# Altium schematic symbol library Custom_Library.SCHLIB: 167 symbols (part 1 of 2)
Pins are listed as number, name and electrical type; pins without a type are passive.

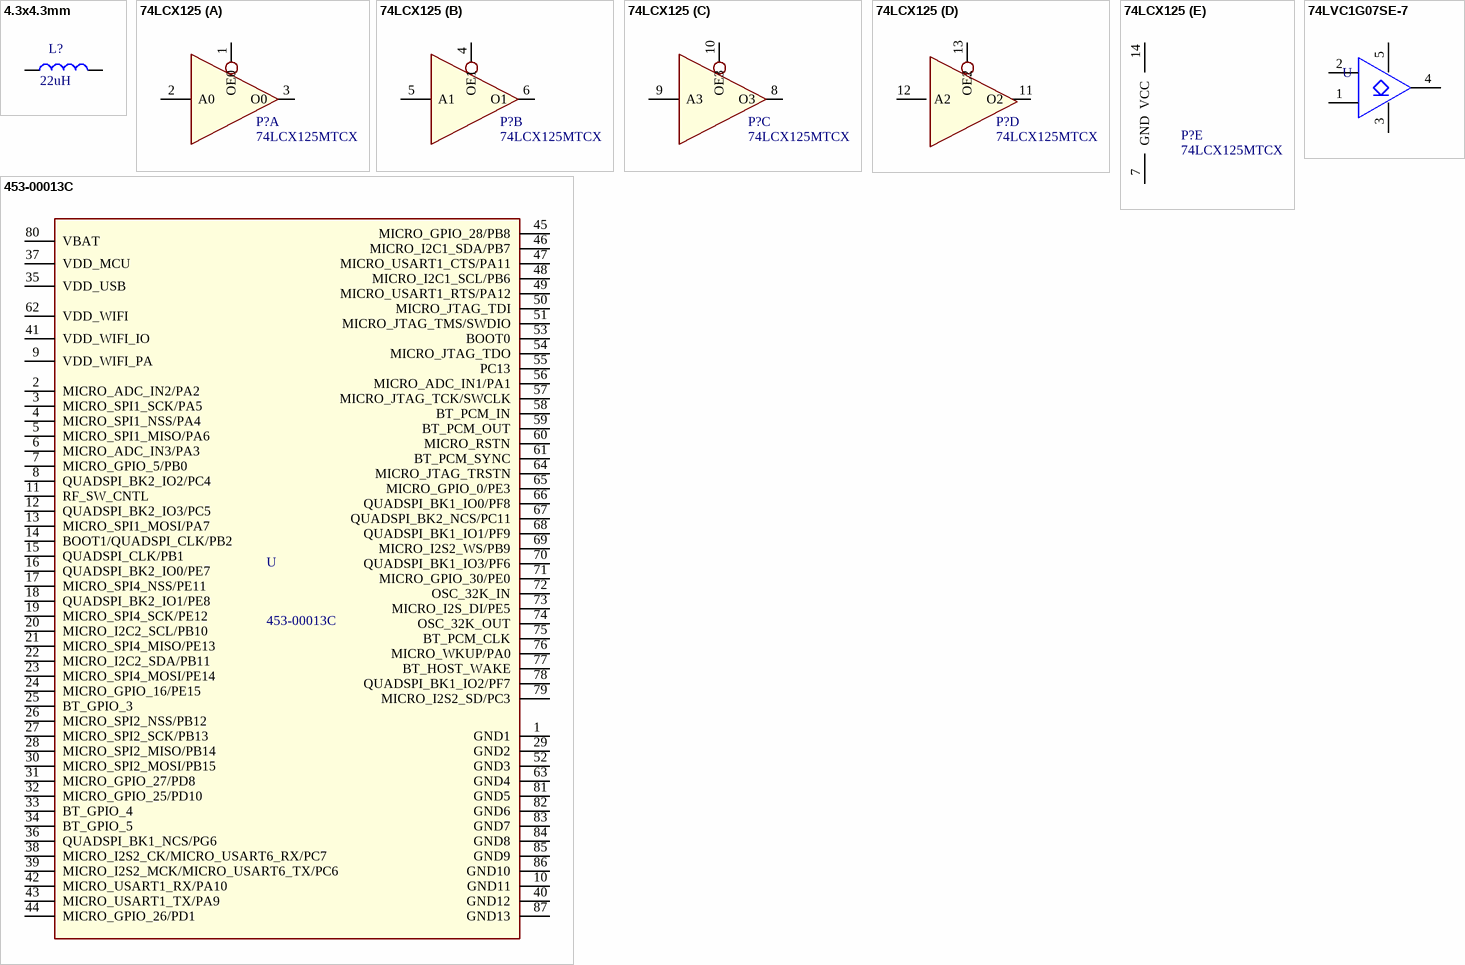
[diagram p0: symbols 4.3x4.3mm to 453-00013C]

## 4.3x4.3mm
designator L?, comment 22uH
FIXED IND 22UH 620MA 350 MOHM; Mfr. Part No.: ASPI-4020S-220M-T; Unit Price (USD): 0.48; Supplier Part No.: 535-12307-1-ND; Value: 22uH; Supplier: Digikey Electronics
footprint 4.3x4.3mm
pins: 1, 2

## 74LCX125
designator P?, comment 74LCX125MTCX
IC BUF NON-INVERT 3.6V 14TSSOP; Unit Price (USD): 0.74; Mfr. Part No.: 74LCX125MTCX; Supplier Part No.: 74LCX125MTCXCT-ND; Supplier: Digikey Electronics
footprint TSSOP-14 (W4.40mm) A
part A pins: 1 OE0, 2 A0, 3 O0
part B pins: 4 OE1, 5 A1, 6 O1
part C pins: 8 O3, 9 A3, 10 OE3
part D pins: 11 O2, 12 A2, 13 OE2
part E pins: 7 GND (power), 14 VCC (power)

## 74LVC1G07SE-7
designator U
IC BUF NON-INVERT 5.5V SOT353; Mfr. Part No.: 74LVC1G07SE-7; Unit Price (USD): 0.26; Supplier Part No.: 74LVC1G07SE-7DICT-ND74LVC1G07SE-7DICT-ND; Supplier: Digikey Electronics
pins: 1, 2, 3, 4, 5

## 453-00013C
designator U
RX TXRX MOD WIFI CHIP + U.FL SMD; Unit Price (USD): 25.23; Mfr. Part No.: 453-00013C; Supplier Part No.: 453-00013C-ND; Supplier: Digikey Electronics
pins: 1 GND1, 2 MICRO_ADC_IN2/PA2, 3 MICRO_SPI1_SCK/PA5, 4 MICRO_SPI1_NSS/PA4, 5 MICRO_SPI1_MISO/PA6, 6 MICRO_ADC_IN3/PA3, 7 MICRO_GPIO_5/PB0, 8 QUADSPI_BK2_IO2/PC4, 9 VDD_WIFI_PA, 10 GND11, 11 RF_SW_CNTL, 12 QUADSPI_BK2_IO3/PC5, 13 MICRO_SPI1_MOSI/PA7, 14 BOOT1/QUADSPI_CLK/PB2, 15 QUADSPI_CLK/PB1, 16 QUADSPI_BK2_IO0/PE7, 17 MICRO_SPI4_NSS/PE11, 18 QUADSPI_BK2_IO1/PE8, 19 MICRO_SPI4_SCK/PE12, 20 MICRO_I2C2_SCL/PB10, 21 MICRO_SPI4_MISO/PE13, 22 MICRO_I2C2_SDA/PB11, 23 MICRO_SPI4_MOSI/PE14, 24 MICRO_GPIO_16/PE15, 25 BT_GPIO_3, 26 MICRO_SPI2_NSS/PB12, 27 MICRO_SPI2_SCK/PB13, 28 MICRO_SPI2_MISO/PB14, 29 GND2, 30 MICRO_SPI2_MOSI/PB15, 31 MICRO_GPIO_27/PD8, 32 MICRO_GPIO_25/PD10, 33 BT_GPIO_4, 34 BT_GPIO_5, 35 VDD_USB, 36 QUADSPI_BK1_NCS/PG6, 37 VDD_MCU, 38 MICRO_I2S2_CK/MICRO_USART6_RX/PC7, 39 MICRO_I2S2_MCK/MICRO_USART6_TX/PC6, 40 GND12, 41 VDD_WIFI_IO, 42 MICRO_USART1_RX/PA10, 43 MICRO_USART1_TX/PA9, 44 MICRO_GPIO_26/PD1, 45 MICRO_GPIO_28/PB8, 46 MICRO_I2C1_SDA/PB7, 47 MICRO_USART1_CTS/PA11, 48 MICRO_I2C1_SCL/PB6, 49 MICRO_USART1_RTS/PA12, 50 MICRO_JTAG_TDI, 51 MICRO_JTAG_TMS/SWDIO, 52 GND3, 53 BOOT0, 54 MICRO_JTAG_TDO, 55 PC13, 56 MICRO_ADC_IN1/PA1, 57 MICRO_JTAG_TCK/SWCLK, 58 BT_PCM_IN, 59 BT_PCM_OUT, 60 MICRO_RSTN, 61 BT_PCM_SYNC, 62 VDD_WIFI, 63 GND4, 64 MICRO_JTAG_TRSTN, 65 MICRO_GPIO_0/PE3, 66 QUADSPI_BK1_IO0/PF8, 67 QUADSPI_BK2_NCS/PC11, 68 QUADSPI_BK1_IO1/PF9, 69 MICRO_I2S2_WS/PB9, 70 QUADSPI_BK1_IO3/PF6, 71 MICRO_GPIO_30/PE0, 72 OSC_32K_IN, 73 MICRO_I2S_DI/PE5, 74 OSC_32K_OUT, 75 BT_PCM_CLK, 76 MICRO_WKUP/PA0, 77 BT_HOST_WAKE, 78 QUADSPI_BK1_IO2/PF7, 79 MICRO_I2S2_SD/PC3, 80 VBAT, 81 GND5, 82 GND6, 83 GND7, 84 GND8, 85 GND9, 86 GND10, 87 GND13

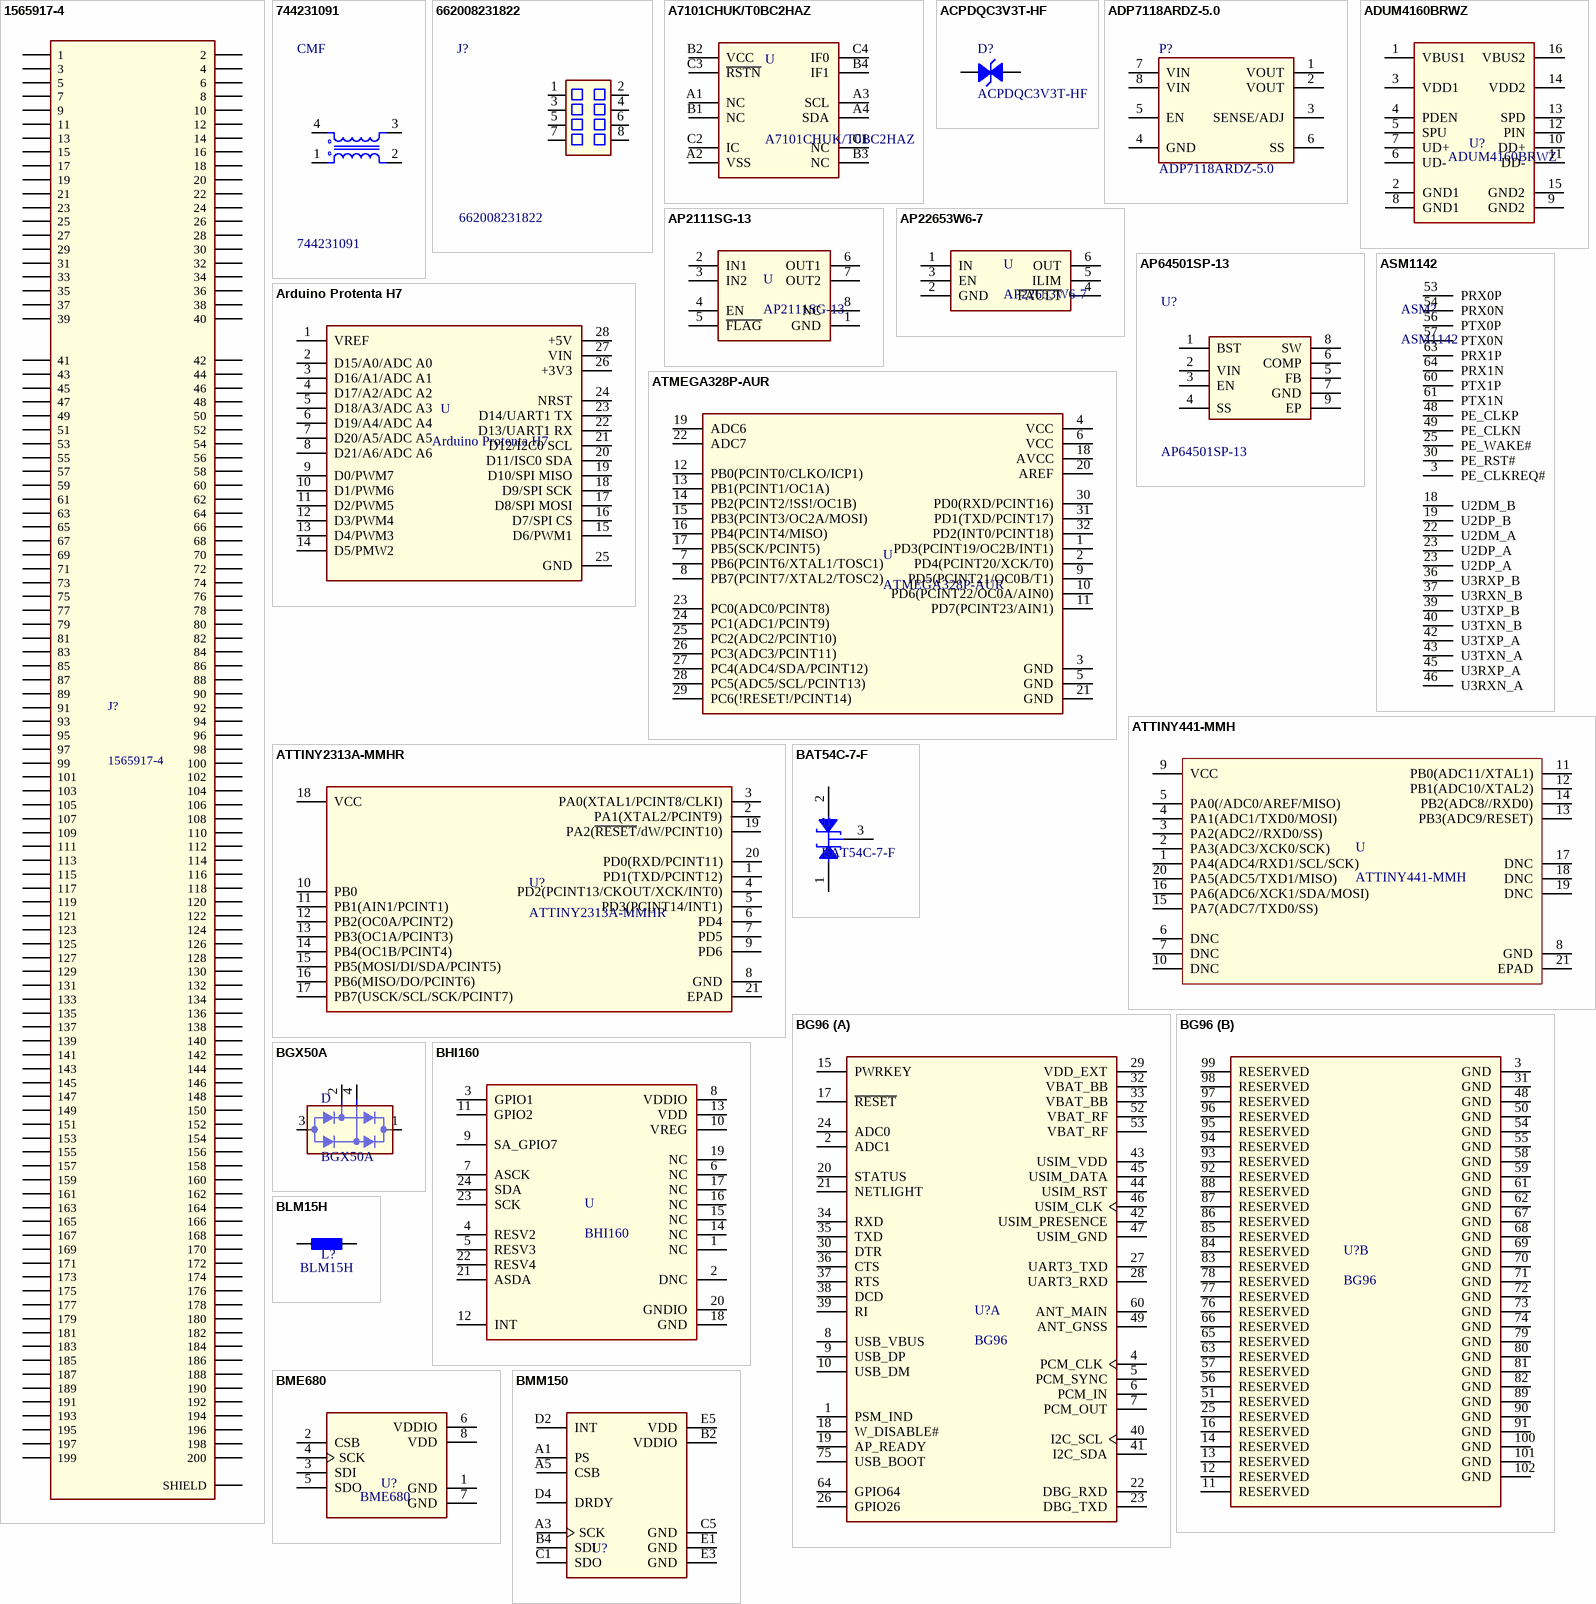
[diagram p1: symbols 1565917-4 to BMM150]

## 1565917-4
designator J?
CONN SKT SODIMM 200POS R/A SMD; Unit Price (USD): 5; Mfr. Part No.: 1565917-4; Supplier Part No.: A97498CT-ND; Supplier: Digikey Electronics
footprint TE_1565917-4
pins: 1, 2, 3, 4, 5, 6, 7, 8, 9, 10, 11, 12, 13, 14, 15, 16, 17, 18, 19, 20, 21, 22, 23, 24, 25, 26, 27, 28, 29, 30, 31, 32, 33, 34, 35, 36, 37, 38, 39, 40, 41, 42, 43, 44, 45, 46, 47, 48, 49, 50, 51, 52, 53, 54, 55, 56, 57, 58, 59, 60, 61, 62, 63, 64, 65, 66, 67, 68, 69, 70, 71, 72, 73, 74, 75, 76, 77, 78, 79, 80, 81, 82, 83, 84, 85, 86, 87, 88, 89, 90, 91, 92, 93, 94, 95, 96, 97, 98, 99, 100, 101, 102, 103, 104, 105, 106, 107, 108, 109, 110, 111, 112, 113, 114, 115, 116, 117, 118, 119, 120, 121, 122, 123, 124, 125, 126, 127, 128, 129, 130, 131, 132, 133, 134, 135, 136, 137, 138, 139, 140, 141, 142, 143, 144, 145, 146, 147, 148, 149, 150, 151, 152, 153, 154, 155, 156, 157, 158, 159, 160, 161, 162, 163, 164, 165, 166, 167, 168, 169, 170, 171, 172, 173, 174, 175, 176, 177, 178, 179, 180, 181, 182, 183, 184, 185, 186, 187, 188, 189, 190, 191, 192, 193, 194, 195, 196, 197, 198, 199, 200, SH SHIELD

## 744231091
designator CMF
CMC 370MA 2LN 90 OHM SMD; Unit Price (USD): 1.06; Mfr. Part No.: 744231091; Supplier: Digikey Electronics; Supplier Part No.: 732-3198-2-ND
pins: 1, 2, 3, 4

## 662008231822
designator J?
CONN HEADER SMD 8POS 3MM; Unit Price (USD): 1.42; Mfr. Part No.: 662008231822; Supplier Part No.: 732-4916-ND; Supplier: Digikey Electronics
pins: 1, 2, 3, 4, 5, 6, 7, 8

## A7101CHUK/T0BC2HAZ
designator U
SECURITY IC STD TEMP WLCSP; Unit Price (USD): 2.83; Mfr. Part No.: A7101CHUK/T0BC2HAZ; Supplier Part No.: 568-14698-2-ND; Supplier: Digikey Electronics
footprint 12-UFBGA/WLCSP (2.06x2.02mm)
pins: A1 NC, A2 VSS, A3 SCL, A4 SDA, B1 NC, B2 VCC, B3 NC, B4 IF1, C1 NC, C2 IC, C3 ~{RSTN}, C4 IF0

## ACPDQC3V3T-HF
designator D?
TVS DIODE 3.3V 9.8V 0402C; Unit Price (USD): 0.41; Mfr. Part No.: ACPDQC3V3T-HF; Supplier Part No.: 641-1635-1-ND; Supplier: Digikey Electronics
footprint 0402C/SOD-923F
pins: 1, 2

## ADP7118ARDZ-5.0
designator P?
IC REG LINEAR 5V 200MA 8SOIC; Unit Price (USD): 2.3; Mfr. Part No.: ADP7118ARDZ-5.0; Supplier Part No.: ADP7118ARDZ-5.0-ND; Supplier: Digikey Electronics
footprint SOIC-8 (W3.9mm) C
pins: 1 VOUT, 2 VOUT, 3 SENSE/ADJ, 4 GND, 5 EN, 6 SS, 7 VIN, 8 VIN

## ADUM4160BRWZ
designator U?
DGT ISOL 5000VRMS 2CH USB 16SOIC; Unit Price (USD): 10.5; Mfr. Part No.: ADUM4160BRWZ; Supplier Part No.: ADUM4160BRWZ-ND; Supplier: Digikey Electronics
footprint SOIC-16-W7.5mm
pins: 1 VBUS1, 2 GND1, 3 VDD1, 4 PDEN, 5 SPU, 6 UD-, 7 UD+, 8 GND1, 9 GND2, 10 DD+, 11 DD-, 12 PIN, 13 SPD, 14 VDD2, 15 GND2, 16 VBUS2

## AP2111SG-13
designator U
IC PWR SWITCH P-CHANNEL 1:1 8SOP; Unit Price (USD): 0.68; Supplier Part No.: AP2111SG-13DITR-ND; Mfr. Part No.: AP2111SG-13; Supplier: Digikey Electronics
footprint SOIC-8 (W3.9mm)
pins: 1 GND, 2 IN1, 3 IN2, 4 EN, 5 ~{FLAG}, 6 OUT1, 7 OUT2, 8 NC

## AP22653W6-7
designator U
LOAD SWITCH,SOT26,T&R,3K; Unit Price (USD): 0.42; Supplier Part No.: 31-AP22653W6-7CT-ND; Mfr. Part No.: AP22653W6-7; Supplier: Digikey Electronics
pins: 1 IN, 2 GND, 3 EN, 4 ~{FAULT}, 5 ILIM, 6 OUT

## AP64501SP-13
designator U?
DCDC CONV HV BUCK SO-8EP; Unit Price (USD): 2.3; Mfr. Part No.: AP64501SP-13; Supplier Part No.: 31-AP64501SP-13CT-ND; Supplier: Digikey Electronics
pins: 1 BST, 2 VIN, 3 EN, 4 SS, 5 FB, 6 COMP, 7 GND, 8 SW, 9 EP

## Arduino Protenta H7
designator U
STM32H747 Portenta H7 STM32H7 ARM® Cortex®-M4, Cortex®-M7 MCU 32-Bit Embedded Evaluation Board; Mfr. Part No.: ABX00042; Unit Price (USD): 99.99; Supplier Part No.: 1050-ABX00042-ND; Supplier: Digikey Electronics
footprint Protenta H7
pins: 1 VREF, 2 D15/A0/ADC A0, 3 D16/A1/ADC A1, 4 D17/A2/ADC A2, 5 D18/A3/ADC A3, 6 D19/A4/ADC A4, 7 D20/A5/ADC A5, 8 D21/A6/ADC A6, 9 D0/PWM7, 10 D1/PWM6, 11 D2/PWM5, 12 D3/PWM4, 13 D4/PWM3, 14 D5/PMW2, 15 D6/PWM1, 16 D7/SPI CS, 17 D8/SPI MOSI, 18 D9/SPI SCK, 19 D10/SPI MISO, 20 D11/ISC0 SDA, 21 D12/I2C0 SCL, 22 D13/UART1 RX, 23 D14/UART1 TX, 24 NRST, 25 GND, 26 +3V3, 27 VIN, 28 +5V

## ASM1142
designator ASM?
PCI Express to 2 ports USB3.1 x HCI Host Controller
pins: 3 PE_CLKREQ#, 18 U2DM_B, 19 U2DP_B, 22 U2DM_A, 23 U2DP_A, 23 U2DP_A, 25 PE_WAKE#, 30 PE_RST#, 36 U3RXP_B, 37 U3RXN_B, 39 U3TXP_B, 40 U3TXN_B, 42 U3TXP_A, 43 U3TXN_A, 45 U3RXP_A, 46 U3RXN_A, 48 PE_CLKP, 49 PE_CLKN, 53 PRX0P, 54 PRX0N, 56 PTX0P, 57 PTX0N, 60 PTX1P, 61 PTX1N, 63 PRX1P, 64 PRX1N

## ATMEGA328P-AUR
designator U
IC MCU 8BIT 32KB FLASH 32TQFP; Unit Price (USD): 2.08; Supplier Part No.: ATMEGA328P-AURCT-ND; Mfr. Part No.: ATMEGA328P-AUR; Supplier: Digikey Electronics
pins: 1 PD3(PCINT19/OC2B/INT1), 2 PD4(PCINT20/XCK/T0), 3 GND, 4 VCC, 5 GND, 6 VCC, 7 PB6(PCINT6/XTAL1/TOSC1), 8 PB7(PCINT7/XTAL2/TOSC2), 9 PD5(PCINT21/OC0B/T1), 10 PD6(PCINT22/OC0A/AIN0), 11 PD7(PCINT23/AIN1), 12 PB0(PCINT0/CLKO/ICP1), 13 PB1(PCINT1/OC1A), 14 PB2(PCINT2/!SS!/OC1B), 15 PB3(PCINT3/OC2A/MOSI), 16 PB4(PCINT4/MISO), 17 PB5(SCK/PCINT5), 18 AVCC, 19 ADC6, 20 AREF, 21 GND, 22 ADC7, 23 PC0(ADC0/PCINT8), 24 PC1(ADC1/PCINT9), 25 PC2(ADC2/PCINT10), 26 PC3(ADC3/PCINT11), 27 PC4(ADC4/SDA/PCINT12), 28 PC5(ADC5/SCL/PCINT13), 29 PC6(!RESET!/PCINT14), 30 PD0(RXD/PCINT16), 31 PD1(TXD/PCINT17), 32 PD2(INT0/PCINT18)

## ATTINY441-MMH
designator U
IC MCU 8BIT 4KB FLASH
pins: 1 PA4(ADC4/RXD1/SCL/SCK) , 2 PA3(ADC3/XCK0/SCK) , 3 PA2(ADC2//RXD0/SS), 4 PA1(ADC1/TXD0/MOSI) , 5 PA0(/ADC0/AREF/MISO), 6 DNC, 7 DNC, 8 GND, 9 VCC, 10 DNC, 11 PB0(ADC11/XTAL1), 12 PB1(ADC10/XTAL2), 13 PB3(ADC9/RESET), 14 PB2(ADC8//RXD0), 15 PA7(ADC7/TXD0/SS), 16 PA6(ADC6/XCK1/SDA/MOSI), 17 DNC, 18 DNC, 19 DNC, 20 PA5(ADC5/TXD1/MISO), 21 EPAD

## ATTINY2313A-MMHR
designator U?
IC MCU 8BIT 2KB FLASH 20VQFN; Unit Price (USD): 0.95; Supplier Part No.: ATTINY2313A-MMHRCT-ND; Mfr. Part No.: ATTINY2313A-MMHR; Supplier: Digikey Electronics
footprint VQFN-20-3X3-EP
pins: 1 PD1(TXD/PCINT12), 2 PA1(XTAL2/PCINT9), 3 PA0(XTAL1/PCINT8/CLKI), 4 PD2(PCINT13/CKOUT/XCK/INT0), 5 PD3(PCINT14/INT1), 6 PD4, 7 PD5, 8 GND, 9 PD6, 10 PB0, 11 PB1(AIN1/PCINT1), 12 PB2(OC0A/PCINT2), 13 PB3(OC1A/PCINT3), 14 PB4(OC1B/PCINT4), 15 PB5(MOSI/DI/SDA/PCINT5), 16 PB6(MISO/DO/PCINT6), 17 PB7(USCK/SCL/SCK/PCINT7), 18 VCC, 19 PA2(~{RESET}/dW/PCINT10), 20 PD0(RXD/PCINT11), 21 EPAD

## BAT54C-7-F
designator U
DIODE ARRAY SCHOTTKY 30V SOT23-3; Unit Price (USD): 0.18; Supplier Part No.: BAT54C-FDICT-ND; Mfr. Part No.: BAT54C-7-F; Supplier: Digikey Electronics
pins: 1, 2, 3

## BG96
designator U?
BG96 is a series of LTE Cat M1/Cat NB1/EGPRS/LPWA module offering maximum data rates of 375Kbps downlink and 375Kbps uplink; Supplier Part No.: *; Supplier: *; Mfr. Part No.: *; Unit Price (USD): *
part A pins: 1 PSM_IND, 2 ADC1, 4 PCM_CLK, 5 PCM_SYNC, 6 PCM_IN, 7 PCM_OUT, 8 USB_VBUS, 9 USB_DP, 10 USB_DM, 15 PWRKEY, 17 ~{RESET}, 18 W_DISABLE#, 19 AP_READY, 20 STATUS, 21 NETLIGHT, 22 DBG_RXD, 23 DBG_TXD, 24 ADC0, 26 GPIO26, 27 UART3_TXD, 28 UART3_RXD, 29 VDD_EXT, 30 DTR, 32 VBAT_BB, 33 VBAT_BB, 34 RXD, 35 TXD, 36 CTS, 37 RTS, 38 DCD, 39 RI, 40 I2C_SCL, 41 I2C_SDA, 42 USIM_PRESENCE, 43 USIM_VDD, 44 USIM_RST, 45 USIM_DATA, 46 USIM_CLK, 47 USIM_GND, 49 ANT_GNSS, 52 VBAT_RF, 53 VBAT_RF, 60 ANT_MAIN, 64 GPIO64, 75 USB_BOOT
part B pins: 3 GND, 11 RESERVED, 12 RESERVED, 13 RESERVED, 14 RESERVED, 16 RESERVED, 25 RESERVED, 31 GND, 48 GND, 50 GND, 51 RESERVED, 54 GND, 55 GND, 56 RESERVED, 57 RESERVED, 58 GND, 59 GND, 61 GND, 62 GND, 63 RESERVED, 65 RESERVED, 66 RESERVED, 67 GND, 68 GND, 69 GND, 70 GND, 71 GND, 72 GND, 73 GND, 74 GND, 76 RESERVED, 77 RESERVED, 78 RESERVED, 79 GND, 80 GND, 81 GND, 82 GND, 83 RESERVED, 84 RESERVED, 85 RESERVED, 86 RESERVED, 87 RESERVED, 88 RESERVED, 89 GND, 90 GND, 91 GND, 92 RESERVED, 93 RESERVED, 94 RESERVED, 95 RESERVED, 96 RESERVED, 97 RESERVED, 98 RESERVED, 99 RESERVED, 100 GND, 101 GND, 102 GND

## BGX50A
designator D
Diode, Bridge, Switching, 50V, 140mA,KCAC,  SOT-143; Unit Price (USD): 0.2; Mfr. Part No.: BGX50A; Supplier Part No.: BGX50AINCT-ND; Supplier: Digikey Electronics
footprint 2-SMD (L3.20 x W1.50mm)
pins: 1, 2, 3, 4

## BHI160
designator U
IMU ACCEL/GYRO 3-AXIS I2C 24LGA; Unit Price (USD): 9.54; Supplier Part No.: 828-1067-2-ND; Mfr. Part No.: BHI160; Supplier: Digikey Electronics
footprint 24-LGA (3x3)
pins: 1 NC, 2 DNC, 3 GPIO1, 4 RESV2, 5 RESV3, 6 NC, 7 ASCK, 8 VDDIO, 9 SA_GPIO7, 10 VREG, 11 GPIO2, 12 INT, 13 VDD, 14 NC, 15 NC, 16 NC, 17 NC, 18 GND, 19 NC, 20 GNDIO, 21 ASDA, 22 RESV4, 23 SCK, 24 SDA

## BLM15H
designator L?
FERRITE BEAD 120 OHM 0402 1LN; Mfr. Part No.: BLM15HB121SN1D; Unit Price (USD): 0.19; Supplier Part No.: 490-4000-1-ND; Supplier: Digikey Electronics
footprint L-0402 (Chip Capacitor, Body 1.0x0.5mm, IPC High Density)
pins: 1, 2

## BME680
designator U?
FERRITE BEAD 120 OHM 0402 1LN; Unit Price (USD): 1; Mfr. Part No.: BME680; Supplier Part No.: 828-1077-2-ND; Supplier: Digikey Electronics
footprint BME680
pins: 1 GND, 2 CSB, 3 SDI, 4 SCK, 5 SDO, 6 VDDIO, 7 GND, 8 VDD

## BMM150
designator U?  (value not drawn)
SENSOR FLIPCORE/HALL SPI 12WLCSP; Unit Price (USD): 1; Mfr. Part No.: BMM150; Supplier Part No.: 828-1044-2-ND; Supplier: Digikey Electronics
footprint BMM150
pins: A1 PS, A3 SCK, A5 CSB, B2 VDDIO, B4 SDI, C1 SDO, C5 GND, D2 INT, D4 DRDY, E1 GND, E3 GND, E5 VDD

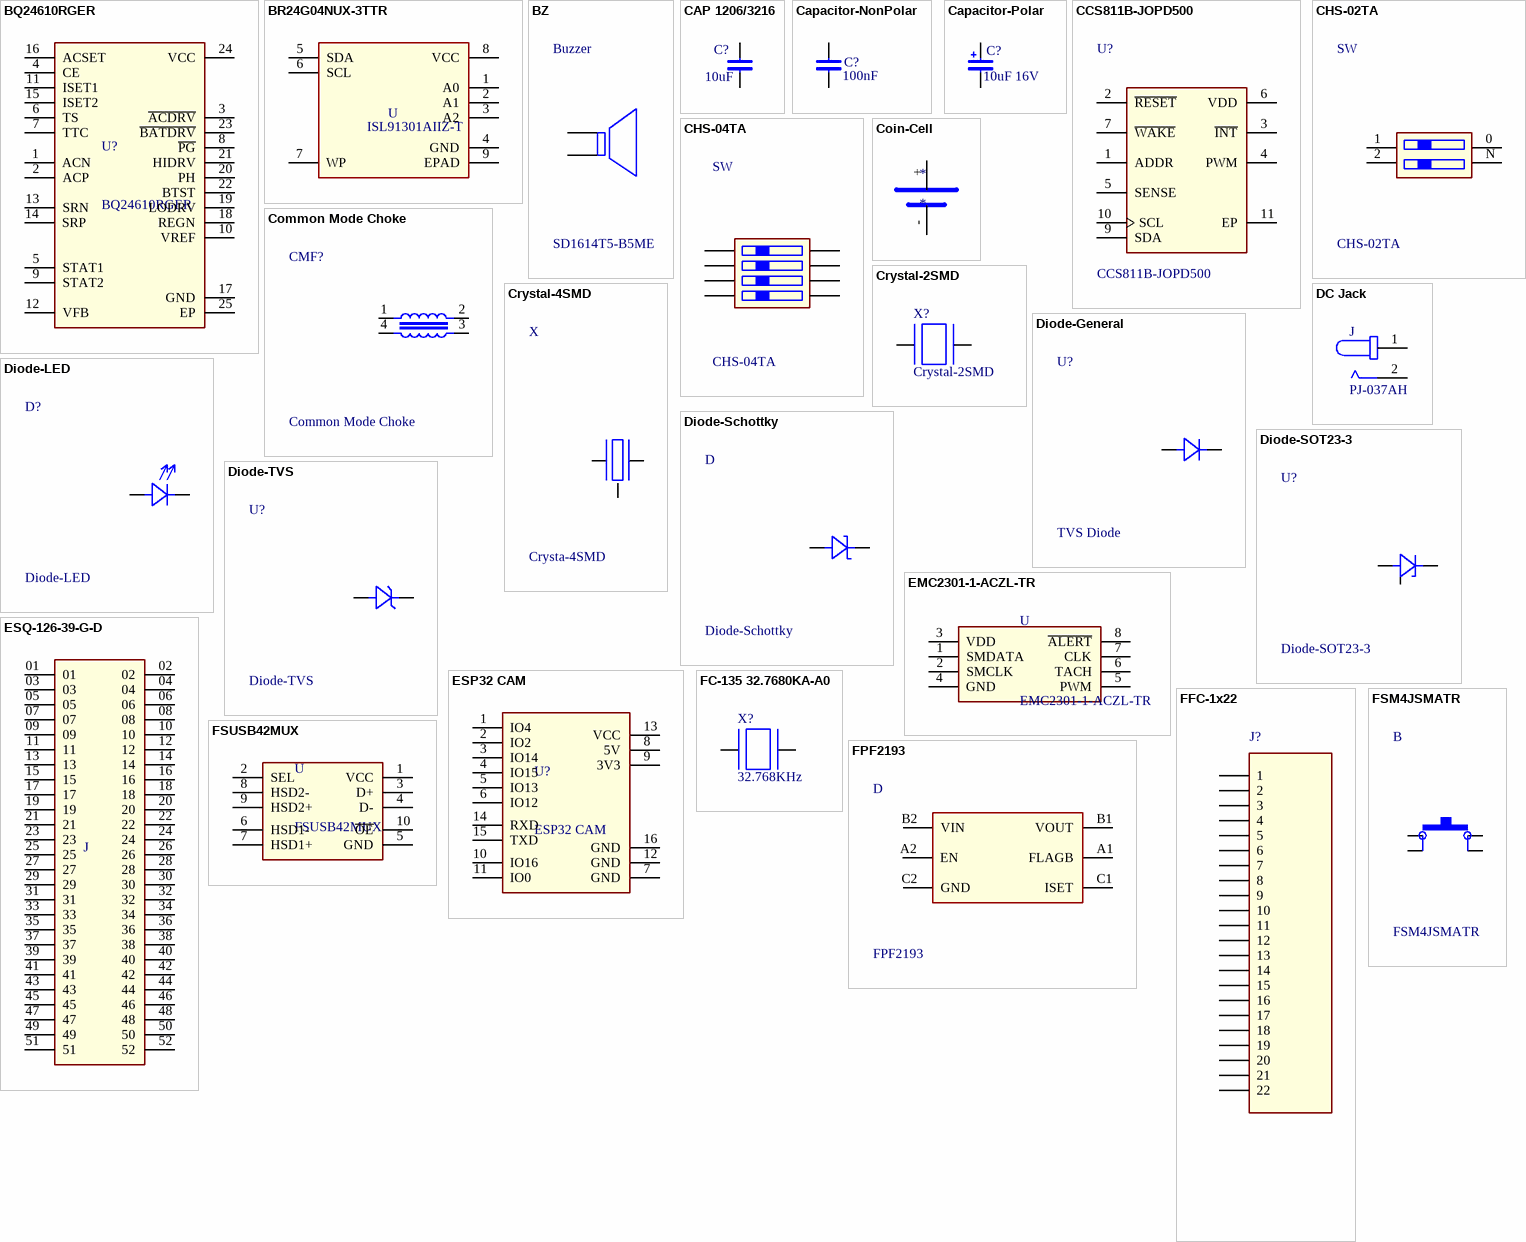
[diagram p2: symbols BQ24610RGER to FSUSB42MUX]

## BQ24610RGER
designator U?
IC BATT CHG LI-ION 1-6CEL 24VQFN; Unit Price (USD): 4.77; Mfr. Part No.: BQ24610RGER; Supplier Part No.: 296-29437-2-ND; Supplier: Digikey Electronics
footprint VQFN-24-(4x4) EP
pins: 1 ACN, 2 ACP, 3 ~{ACDRV}, 4 CE, 5 STAT1, 6 TS, 7 TTC, 8 ~{PG}, 9 STAT2, 10 VREF, 11 ISET1, 12 VFB, 13 SRN, 14 SRP, 15 ISET2, 16 ACSET, 17 GND, 18 REGN, 19 LODRV, 20 PH, 21 HIDRV, 22 BTST, 23 ~{BATDRV}, 24 VCC, 25 EP

## BR24G04NUX-3TTR
designator U, comment ISL91301AIIZ-T
IC EEPROM 4KBIT I2C VSON008X2030; Mfr. Part No.: BR24G04NUX-3TTR; Unit Price (USD): 0.27; Supplier Part No.: BR24G04NUX-3TTR-ND; Supplier: Digikey Electronics
footprint L-0402 (Chip Capacitor, Body 1.0x0.5mm, IPC High Density)
pins: 1 A0, 2 A1, 3 A2, 4 GND, 5 SDA, 6 SCL, 7 WP, 8 VCC, 9 EPAD

## BZ
designator Buzzer, comment SD1614T5-B5ME
BUZZER MAGNETIC 5V 80DB 2048HZ 1; Unit Price (USD): 1.25; Mfr. Part No.: SD1614T5-B5ME; Supplier: Digikey Electronics; Supplier Part No.: 445-175287-ND
footprint Buzzer 5mm
pins: 1 A, 2 B

## CAP 1206/3216
designator C?, comment 10uF
CAP CER 10UF 25V X5R 1206; Mfr. Part No.: C1206C106M3PACTU; Unit Price (USD): 0.28; Supplier Part No.: 399-8153-1-ND; Supplier: Digikey Electronics
footprint CAP 1206/3216 (Chip Capacitor, 2-Leads, Body 3.25x1.60mm, IPC Medium Density)
footprint CAP 1206/3216 (Chip Capacitor, 2-Leads, Body 3.25x1.60mm, IPC Medium Density)
pins: 1, 2

## Capacitor-NonPolar
designator C?, comment 100nF
CAP CER 0.1UF 50V X7R 0402; Mfr. Part No.: UMK105B7104KV-FR; Unit Price (USD): 0.15; Value: 100nF; Supplier Part No.: 587-3498-1-ND; Supplier: Digikey Electronics
footprint C-0402
footprint C-0603
footprint C-1206
pins: 1, 2

## Capacitor-Polar
designator C?, comment 10uF 16V
CAP TANT 10UF 10% 16V 1206; Mfr. Part No.: F931C106KAAAJ6; Unit Price (USD): 0.67; Supplier Part No.: 478-10723-1-ND; Value: 10uF 16V; Supplier: Digikey Electronics
footprint C-1206 (Tantalum)
pins: +, -

## CCS811B-JOPD500
designator U?
USB 3.1 GEN1 to SD3.0 / Memory Card Reader Controller; Unit Price (USD): 1; Supplier: Digikey Electronics; Supplier Part No.: CCS811B-JOPD500TR-ND; Mfr. Part No.: CCS811B-JOPD500
footprint CCS811B-JOPD500
pins: 1 ADDR, 2 ~{RESET}, 3 ~{INT}, 4 PWM, 5 SENSE, 6 VDD, 7 ~{WAKE}, 9 SDA, 10 SCL, 11 EP

## CHS-02TA
designator SW
SWITCH SLIDE DIP SPST 100MA 6V; Unit Price (USD): 1.7; Mfr. Part No.: CHS-02TA; Supplier: Digikey Electronics; Supplier Part No.: 563-1005-2-ND
pins: 0, 1, 2, N

## CHS-04TA
designator SW
SWITCH SLIDE DIP SPST 100MA 6V; Unit Price (USD): 1.89; Mfr. Part No.: CHS-04TA; Supplier: Digikey Electronics; Supplier Part No.: 563-1007-1-ND
footprint CHS-04TA
pins: 1, 2, 3, 4, 5, 6, 7, 8

## Coin-Cell
designator *
pins: +, - _

## Common Mode Choke
designator CMF?
CMC 150MA 2LN 90 OHM SMD; Mfr. Part No.: DLP11SA900HL2L; Unit Price (USD): 0.47; Supplier Part No.: 490-6035-2-ND; Supplier: Digikey Electronics
pins: 1, 2, 3, 4

## Crystal-2SMD
designator X?
CRYSTAL 8.0000MHZ 12PF SMD; Mfr. Part No.: 7A-8.000MAAE-T; Unit Price (USD): 0.69; Supplier Part No.: 887-1740-1-ND; Supplier: Digikey Electronics
footprint 2-SMD (L5 x W3mm)
pins: 1, 2

## Crystal-4SMD
designator X, comment Crysta-4SMD
Mfr. Part No.: LIS2DHTR; Supplier: DigikeyElectronics
pins: 1 IN/OUT, 2 GND, 3 OUT/IN

## DC Jack
designator J, comment PJ-037AH
CONN PWR JACK 2X5.5MM SOLDER; Unit Price (USD): 0.71; Mfr. Part No.: PJ-037AH; Supplier Part No.: CP-037AH-ND; Supplier: Digikey Electronics
pins: 1, 2

## Diode-General
designator U?, comment TVS Diode
Supplier: Digikey Electronics
footprint SOIC-8 (W3.9mm) B
pins: A, C

## Diode-LED
designator D?
Supplier: Digikey Electronics
footprint SOIC-8 (W3.9mm) B
pins: A, C

## Diode-Schottky
designator D
Supplier: Digikey Electronics
footprint SOIC-8 (W3.9mm) B
pins: A, C

## Diode-SOT23-3
designator U?
Supplier: Digikey Electronics
footprint SOIC-8 (W3.9mm) B
pins: 1 A, 2 nc, 3 C

## Diode-TVS
designator U?
Supplier: Digikey Electronics
footprint SOIC-8 (W3.9mm) B
pins: 1, 2

## EMC2301-1-ACZL-TR
designator U
IC MOTOR DRIVER 3V-3.6V 8MSOP; Unit Price (USD): 0.93; Mfr. Part No.: EMC2301-1-ACZL-TR; Supplier Part No.: EMC2301-1-ACZL-CT-ND; Supplier: Digikey Electronics
pins: 1 SMDATA, 2 SMCLK, 3 VDD, 4 GND, 5 PWM, 6 TACH, 7 CLK, 8 ~{ALERT}

## ESP32 CAM
designator U?
ESP32 - Image Sensor Sensor Evaluation Boar; Mfr. Part No.: DFR0602; Unit Price (USD): 11.8; Supplier Part No.: 1738-DFR0602-ND; Supplier: Digikey Electronics
footprint ESP32 CAM
pins: 1 IO4, 2 IO2, 3 IO14, 4 IO15, 5 IO13, 6 IO12, 7 GND, 8 5V, 9 3V3, 10 IO16, 11 IO0, 12 GND, 13 VCC, 14 RXD, 15 TXD, 16 GND

## ESQ-126-39-G-D
designator J
CONN SOCKET 52POS 0.1 GOLD PCB; Mfr. Part No.: ESQ-126-39-G-D; Unit Price (USD): 13.38; Supplier Part No.: SAM10462-ND; Supplier: Digikey Electronics
pins: 01, 02, 03, 04, 05, 06, 07, 08, 09, 10, 11, 12, 13, 14, 15, 16, 17, 18, 19, 20, 21, 22, 23, 24, 25, 26, 27, 28, 29, 30, 31, 32, 33, 34, 35, 36, 37, 38, 39, 40, 41, 42, 43, 44, 45, 46, 47, 48, 49, 50, 51, 52

## FC-135 32.7680KA-A0
designator X?, comment 32.768KHz
CRYSTAL 32.7680KHZ 12.5PF SMT; Mfr. Part No.: ECS-.327-12.5-34B-TR; Unit Price (USD): 0.24; Supplier Part No.: XC1617TR-ND; Supplier: Digikey Electronics
footprint 2-SMD (L3.20 x W1.50mm)
pins: 1, 2

## FFC-1x22
designator J?
CONN FFC BOTTOM 22POS 0.50MM R/A; Mfr. Part No.: 0524372233; Unit Price (USD): 1.85; Supplier Part No.: WM10974CT-ND; Supplier: Digikey Electronics
pins: 1, 2, 3, 4, 5, 6, 7, 8, 9, 10, 11, 12, 13, 14, 15, 16, 17, 18, 19, 20, 21, 22

## FPF2193
designator D
IC PWR SWITCH P-CHAN 1:1 6WLCSP; Unit Price (USD): 1.19; Mfr. Part No.: FPF2193; Supplier Part No.: FPF2193TR-ND; Supplier: Digikey Electronics
footprint 6-WLCSP (0.96x1.66)
pins: A1 FLAGB, A2 EN, B1 VOUT, B2 VIN, C1 ISET, C2 GND

## FSM4JSMATR
designator B
SWITCH TACTILE SPST-NO 0.05A 24V; Unit Price (USD): 0.2; Mfr. Part No.: FSM4JSMATR; Supplier: Digikey Electronics; Supplier Part No.: 450-1759-1-ND
footprint SW_4-1437565-2
pins: 1, 2, 3, 4

## FSUSB42MUX
designator U
IC USB SWITCH DPDT 10MSOP; Unit Price (USD): 0.6; Mfr. Part No.: FSUSB42MUX; Supplier Part No.: FSUSB42MUXCT-ND; Supplier: Digikey Electronics
pins: 1 VCC, 2 SEL, 3 D+, 4 D-, 5 GND, 6 HSD1-, 7 HSD1+, 8 HSD2-, 9 HSD2+, 10 ~{OE}

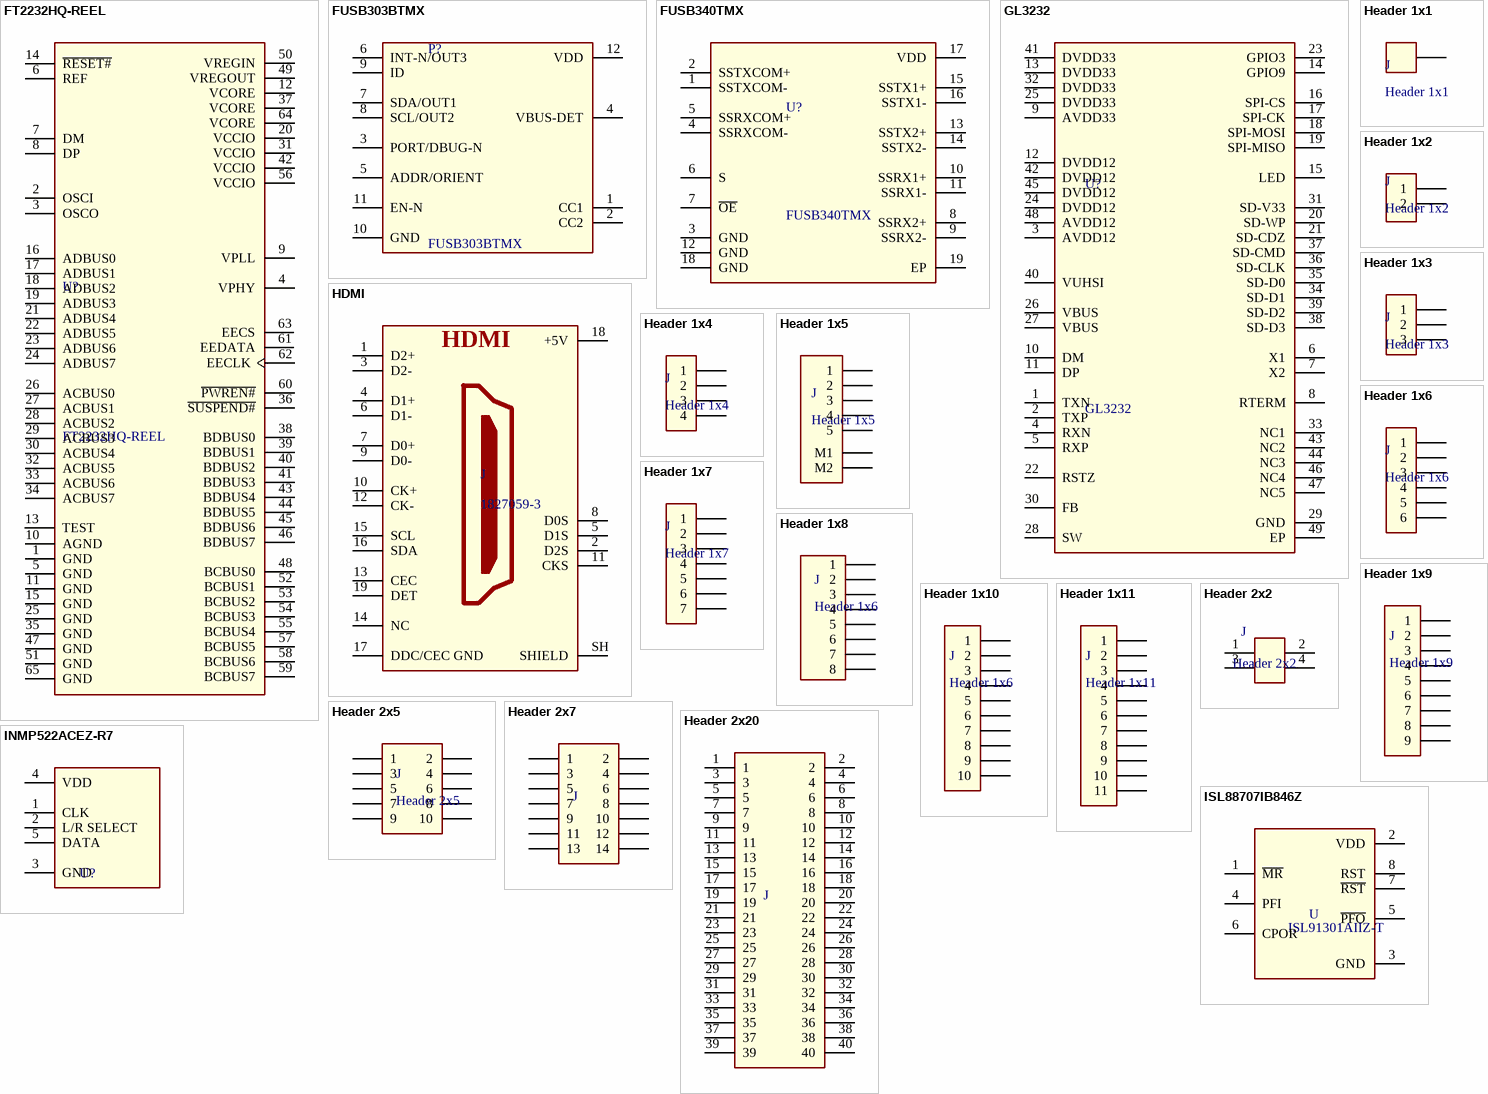
[diagram p3: symbols FT2232HQ-REEL to ISL88707IB846Z]

## FT2232HQ-REEL
designator U?
IC USB HS DUAL UART/FIFO 64-QFN; Unit Price (USD): 6.71; Mfr. Part No.: FT2232HQ-REEL; Supplier Part No.: 768-1025-1-ND; Supplier: Digikey Electronics
footprint QFN-64-(9x9)-EP
pins: 1 GND, 2 OSCI, 3 OSCO, 4 VPHY, 5 GND, 6 REF, 7 DM, 8 DP, 9 VPLL, 10 AGND, 11 GND, 12 VCORE, 13 TEST, 14 ~{RESET#}, 15 GND, 16 ADBUS0, 17 ADBUS1, 18 ADBUS2, 19 ADBUS3, 20 VCCIO, 21 ADBUS4, 22 ADBUS5, 23 ADBUS6, 24 ADBUS7, 25 GND, 26 ACBUS0, 27 ACBUS1, 28 ACBUS2, 29 ACBUS3, 30 ACBUS4, 31 VCCIO, 32 ACBUS5, 33 ACBUS6, 34 ACBUS7, 35 GND, 36 ~{SUSPEND#}, 37 VCORE, 38 BDBUS0, 39 BDBUS1, 40 BDBUS2, 41 BDBUS3, 42 VCCIO, 43 BDBUS4, 44 BDBUS5, 45 BDBUS6, 46 BDBUS7, 47 GND, 48 BCBUS0, 49 VREGOUT, 50 VREGIN, 51 GND, 52 BCBUS1, 53 BCBUS2, 54 BCBUS3, 55 BCBUS4, 56 VCCIO, 57 BCBUS5, 58 BCBUS6, 59 BCBUS7, 60 ~{PWREN#}, 61 EEDATA, 62 EECLK, 63 EECS, 64 VCORE, 65 GND

## FUSB303BTMX
designator P?
USB TYPE-C PORT CONTROLLER; Unit Price (USD): 0.61; Mfr. Part No.: FUSB303BTMX; Supplier: Digikey Electronics; Supplier Part No.: 488-FUSB303BTMXCT-ND
footprint 12-X2QFN (1.6x1.6)
pins: 1 CC1, 2 CC2, 3 PORT/DBUG-N, 4 VBUS-DET, 5 ADDR/ORIENT, 6 INT-N/OUT3, 7 SDA/OUT1, 8 SCL/OUT2, 9 ID, 10 GND, 11 EN-N, 12 VDD

## FUSB340TMX
designator U?
IC USB TYPE C CTLR PROGR 9WLCSP; Unit Price (USD): 1.01; Mfr. Part No.: FUSB340TMX; Supplier Part No.: FUSB340TMXCT-ND; Supplier: Digikey Electronics
footprint 18-XFQFN (2x2.8)-EP
pins: 1 SSTXCOM-, 2 SSTXCOM+, 3 GND, 4 SSRXCOM-, 5 SSRXCOM+, 6 S, 7 ~{OE}, 8 SSRX2+, 9 SSRX2-, 10 SSRX1+, 11 SSRX1-, 12 GND, 13 SSTX2+, 14 SSTX2-, 15 SSTX1+, 16 SSTX1-, 17 VDD, 18 GND, 19 EP

## GL3232
designator U?
USB 3.1 GEN1 to SD3.0 / Memory Card Reader Controller; Mfr. Part No.: GL3232
footprint QFN-48 (6x6)-EP
pins: 1 TXN, 2 TXP, 3 AVDD12, 4 RXN, 5 RXP, 6 X1, 7 X2, 8 RTERM, 9 AVDD33, 10 DM, 11 DP, 12 DVDD12, 13 DVDD33, 14 GPIO9, 15 LED, 16 SPI-CS, 17 SPI-CK, 18 SPI-MOSI, 19 SPI-MISO, 20 SD-WP, 21 SD-CDZ, 22 RSTZ, 23 GPIO3, 24 DVDD12, 25 DVDD33, 26 VBUS, 27 VBUS, 28 SW, 29 GND, 30 FB, 31 SD-V33, 32 DVDD33, 33 NC1, 34 SD-D1, 35 SD-D0, 36 SD-CLK, 37 SD-CMD, 38 SD-D3, 39 SD-D2, 40 VUHSI, 41 DVDD33, 42 DVDD12, 43 NC2, 44 NC3, 45 DVDD12, 46 NC4, 47 NC5, 48 AVDD12, 49 EP

## HDMI
designator J, comment 1827059-3
CONN RCPT HDMI 19POS PNL MNT R/A; Unit Price (USD): 2.73; Supplier LPart No.: A135237CT-ND; Supplier: Digikey Electronics; Mfr. Part No.: 1827059-3
pins: 1 D2+, 2 D2S, 3 D2-, 4 D1+, 5 D1S, 6 D1-, 7 D0+, 8 D0S, 9 D0-, 10 CK+, 11 CKS, 12 CK-, 13 CEC, 14 NC, 15 SCL, 16 SDA, 17 DDC/CEC GND, 18 +5V, 19 DET, SH SHIELD

## Header 1x1
designator J
Supplier: Digikey Electronics
pins: 1

## Header 1x2
designator J
CONN HEADER VERT 3POS 2.54MM; Mfr. Part No.: 75160-156-03LF; Value: 51R; Unit Price (USD): 0.74; Supplier Part No.: 609-75160-156-03LF-ND; Supplier: Digikey Electronics
pins: 1, 2

## Header 1x3
designator J
CONN HEADER VERT 3POS 2.54MM; Mfr. Part No.: 75160-156-03LF; Value: 51R; Unit Price (USD): 0.74; Supplier Part No.: 609-75160-156-03LF-ND; Supplier: Digikey Electronics
pins: 1, 2, 3

## Header 1x4
designator J
CONN HEADER VERT 4POS 2.54MM; Supplier: Digikey Electronics
pins: 1, 2, 3, 4

## Header 1x5
designator J
pins: 1, 2, 3, 4, 5, M1, M2

## Header 1x6
designator J
CONN HEADER VERT 3POS 2.54MM
pins: 1, 2, 3, 4, 5, 6

## Header 1x7
designator J
pins: 1, 2, 3, 4, 5, 6, 7

## Header 1x8
designator J, comment Header 1x6
CONN HEADER VERT 3POS 2.54MM
pins: 1, 2, 3, 4, 5, 6, 7, 8

## Header 1x9
designator J
CONN HEADER VERT 3POS 2.54MM
pins: 1, 2, 3, 4, 5, 6, 7, 8, 9

## Header 1x10
designator J, comment Header 1x6
CONN HEADER VERT 3POS 2.54MM
pins: 1, 2, 3, 4, 5, 6, 7, 8, 9, 10

## Header 1x11
designator J
CONN HEADER VERT 3POS 2.54MM
pins: 1, 2, 3, 4, 5, 6, 7, 8, 9, 10, 11

## Header 2x2
designator J
FIXED IND 22UH 620MA 350 MOHM; Mfr. Part No.: PH2-04-UA; Unit Price (USD): 0.1; Supplier Part No.: 2057-PH2-04-UA-ND; Supplier: Digikey Electronics
pins: 1, 2, 3, 4

## Header 2x5
designator J
CONN HEADER VERT 10POS 2.54MM; Mfr. Part No.: TSW-105-05-G-D; Unit Price (USD): 1.1; Supplier Part No.: SAM1012-05-ND; Supplier: Digikey Electronics; Parameter 1: *; Parameter 2: *
pins: 1, 2, 3, 4, 5, 6, 7, 8, 9, 10

## Header 2x7
designator J
CONN HEADER SMD 14POS 2.54MM; Mfr. Part No.: 95157-114LF; Unit Price (USD): 1.6; Supplier Part No.: 609-95157-114LF-ND; Supplier: Digikey Electronics
pins: 1, 2, 3, 4, 5, 6, 7, 8, 9, 10, 11, 12, 13, 14

## Header 2x20
designator J
CONN SOCKET 52POS 0.1 GOLD PCB; Mfr. Part No.: ESQ-126-39-G-D; Unit Price (USD): 13.38; Supplier Part No.: SAM10462-ND; Supplier: Digikey Electronics
pins: 1, 2, 3, 4, 5, 6, 7, 8, 9, 10, 11, 12, 13, 14, 15, 16, 17, 18, 19, 20, 21, 22, 23, 24, 25, 26, 27, 28, 29, 30, 31, 32, 33, 34, 35, 36, 37, 38, 39, 40

## INMP522ACEZ-R7
designator U?  (value not drawn)
MICROPHONE MEMS DIGITAL PDM OMNI; Unit Price (USD): 1.40; Mfr. Part No.: INMP522ACEZ-R7; Supplier Part No.: 1428-1023-1-ND; Supplier: Digikey Electronics
pins: 1 CLK, 2 L/R SELECT, 3 GND, 4 VDD, 5 DATA

## ISL88707IB846Z
designator U, comment ISL91301AIIZ-T
IC SUPERVISOR 1 CHANNEL 8SOIC; Mfr. Part No.: ISL88707IB846Z; Unit Price (USD): 1.37; Supplier Part No.: 2156-ISL88707IB846Z-ND; Supplier: Digikey Electronics
footprint SOIC-8 (W3.9mm)
pins: 1 ~{MR}, 2 VDD (power), 3 GND (power), 4 PFI, 5 ~{PFO}, 6 CPOR, 7 ~{RST}, 8 RST

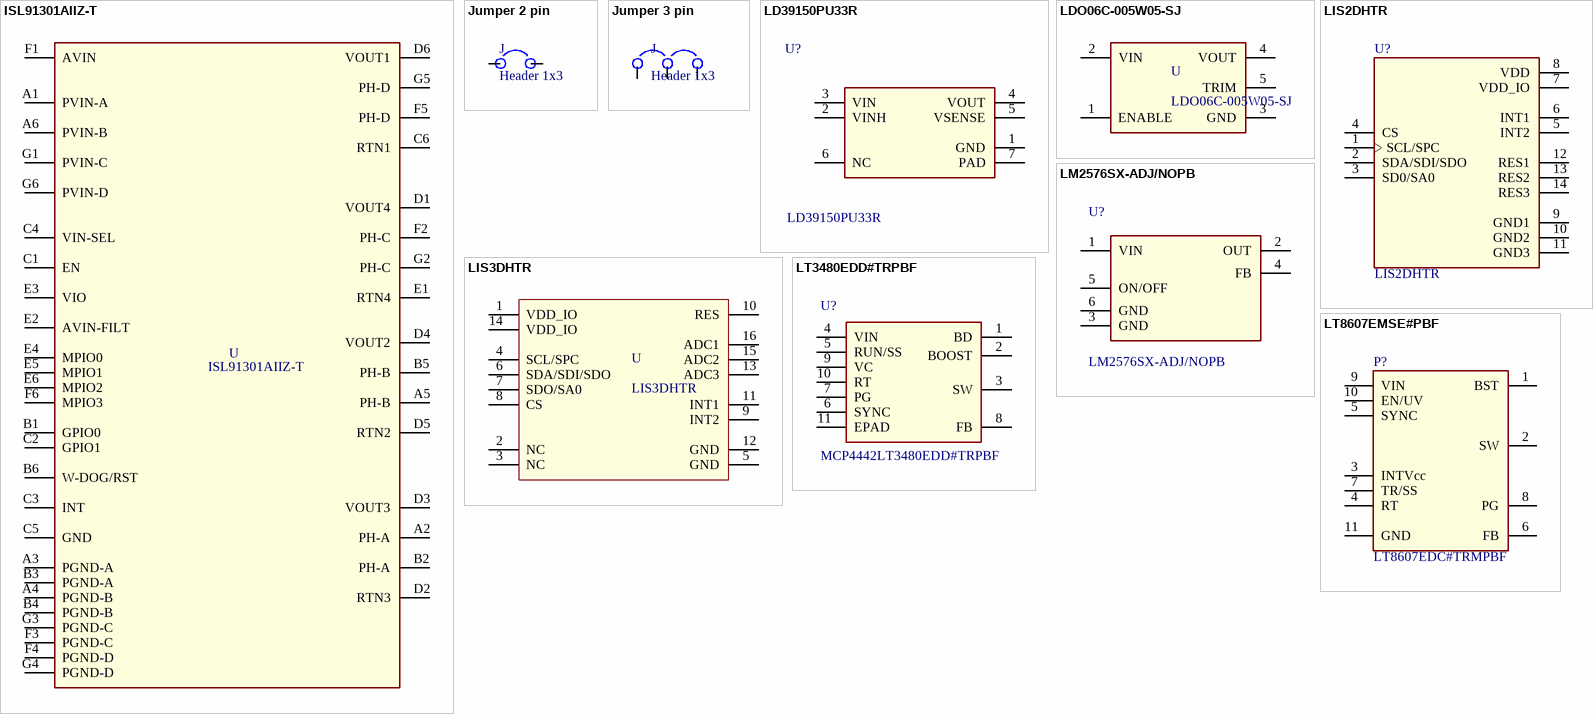
[diagram p4: symbols ISL91301AIIZ-T to LT8607EMSE#PBF]

## ISL91301AIIZ-T
designator U
Switching Regulator IC Output YORKIE 2+1+1; Unit Price (USD): 3.775; Mfr. Part No.: ISL91301AIIZ-T; Supplier Part No.: ISL91301AIIZ-T-ND; Supplier: Digikey Electronics
footprint L-0402 (Chip Capacitor, Body 1.0x0.5mm, IPC High Density)
pins: A1 PVIN-A, A2 PH-A, A3 PGND-A, A4 PGND-B, A5 PH-B, A6 PVIN-B, B1 GPIO0, B2 PH-A, B3 PGND-A, B4 PGND-B, B5 PH-B, B6 W-DOG/RST, C1 EN, C2 GPIO1, C3 INT, C4 VIN-SEL, C5 GND, C6 RTN1, D1 VOUT4, D2 RTN3, D3 VOUT3, D4 VOUT2, D5 RTN2, D6 VOUT1, E1 RTN4, E2 AVIN-FILT, E3 VIO, E4 MPIO0, E5 MPIO1, E6 MPIO2, F1 AVIN, F2 PH-C, F3 PGND-C, F4 PGND-D, F5 PH-D, F6 MPIO3, G1 PVIN-C, G2 PH-C, G3 PGND-C, G4 PGND-D, G5 PH-D, G6 PVIN-D

## Jumper 2 pin
designator J, comment Header 1x3
CONN HEADER VERT 3POS 2.54MM; Mfr. Part No.: 75160-156-03LF; Value: 51R; Unit Price (USD): 0.74; Supplier Part No.: 609-75160-156-03LF-ND; Supplier: Digikey Electronics
pins: 1, 2

## Jumper 3 pin
designator J, comment Header 1x3
CONN HEADER VERT 3POS 2.54MM; Mfr. Part No.: 75160-156-03LF; Value: 51R; Unit Price (USD): 0.74; Supplier Part No.: 609-75160-156-03LF-ND; Supplier: Digikey Electronics
pins: 1, 2, 3

## LD39150PU33R
designator U?
IC REG LINEAR 3.3V 1.5A 6DFN; Unit Price (USD): 1.05; Mfr. Part No.: LD39150PU33R; Supplier Part No.: 497-19285-1-ND; Supplier: Digikey Electronics
footprint DFN6-3x3x0.8mm
pins: 1 GND, 2 VINH, 3 VIN, 4 VOUT, 5 VSENSE, 6 NC, 7 PAD

## LDO06C-005W05-SJ
designator U
DC DC CONVERTER 0.59-5.1V 30W; Unit Price (USD): 11.2; Supplier Part No.: 454-1281-ND; Mfr. Part No.: LDO06C-005W05-SJ; Supplier: Digikey Electronics
footprint LDO06C-005W05-SJ
pins: 1 ENABLE, 2 VIN, 3 GND, 4 VOUT, 5 TRIM

## LIS2DHTR
designator U?
ACCEL 2-16G I2C/SPI 14LGA; Unit Price (USD): 1.68; Supplier: DigikeyElectronics; Supplier Part No.: 497-13795-1-ND; Mfr. Part No.: LIS2DHTR
footprint LGA-14-2x2
pins: 1 SCL/SPC, 2 SDA/SDI/SDO, 3 SD0/SA0, 4 CS, 5 INT2, 6 INT1, 7 VDD_IO, 8 VDD, 9 GND1, 10 GND2, 11 GND3, 12 RES1, 13 RES2, 14 RES3

## LIS3DHTR
designator U
ACCEL 2-16G I2C/SPI 16LGA; SourceLibrary: Updates_to_database_2020-11-03; Built_By: EMA_UL_Team; Vendor: STMicroelectronics; Manufacturer_Part_Number: LIS3DHTR; Copyright: Copyright (C) 2018 Accelerated Designs. All rights reserved; RefDes: RefDes; Type: DEV
footprint LGA-16_3x3x1mm_STM
pins: 1 VDD_IO, 2 NC, 3 NC, 4 SCL/SPC, 5 GND, 6 SDA/SDI/SDO, 7 SDO/SA0, 8 CS, 9 INT2, 10 RES, 11 INT1, 12 GND, 13 ADC3, 14 VDD_IO, 15 ADC2, 16 ADC1

## LM2576SX-ADJ/NOPB
designator U?
IC REG BUCK ADJ 3A TO263-5; Unit Price (USD): 2.77; Mfr. Part No.: LM2576SX-ADJ/NOPB; Supplier Part No.: LM2576SX-ADJ/NOPBCT-ND; Supplier: Digikey Electronics
footprint TSSOP-14 (W4.40mm)
pins: 1 VIN, 2 OUT, 3 GND, 4 FB, 5 ON/OFF, 6 GND

## LT3480EDD#TRPBF
designator U?, comment MCP4442LT3480EDD#TRPBF
IC REG BUCK ADJUSTABLE 2A 10DFN; Unit Price (USD): 8.73; Mfr. Part No.: LT3480EDD#TRPBF; Supplier Part No.: LT3480EDD#TRPBFCT-ND; Supplier: Digikey Electronics
pins: 1 BD, 2 BOOST, 3 SW, 4 VIN, 5 RUN/SS, 6 SYNC, 7 PG, 8 FB, 9 VC, 10 RT, 11 EPAD

## LT8607EMSE#PBF
designator P?, comment LT8607EDC#TRMPBF
IC REG BUCK ADJ 750MA 8DFN; Unit Price (USD): 5.48; Mfr. Part No.: LT8607EDC#TRMPBF; Supplier: Digikey Electronics; Supplier Part No.: LT8607EMSE#PBF-ND
footprint MSOP-10-W3mm
pins: 1 BST, 2 SW, 3 INTVcc, 4 RT, 5 SYNC, 6 FB, 7 TR/SS, 8 PG, 9 VIN, 10 EN/UV, 11 GND

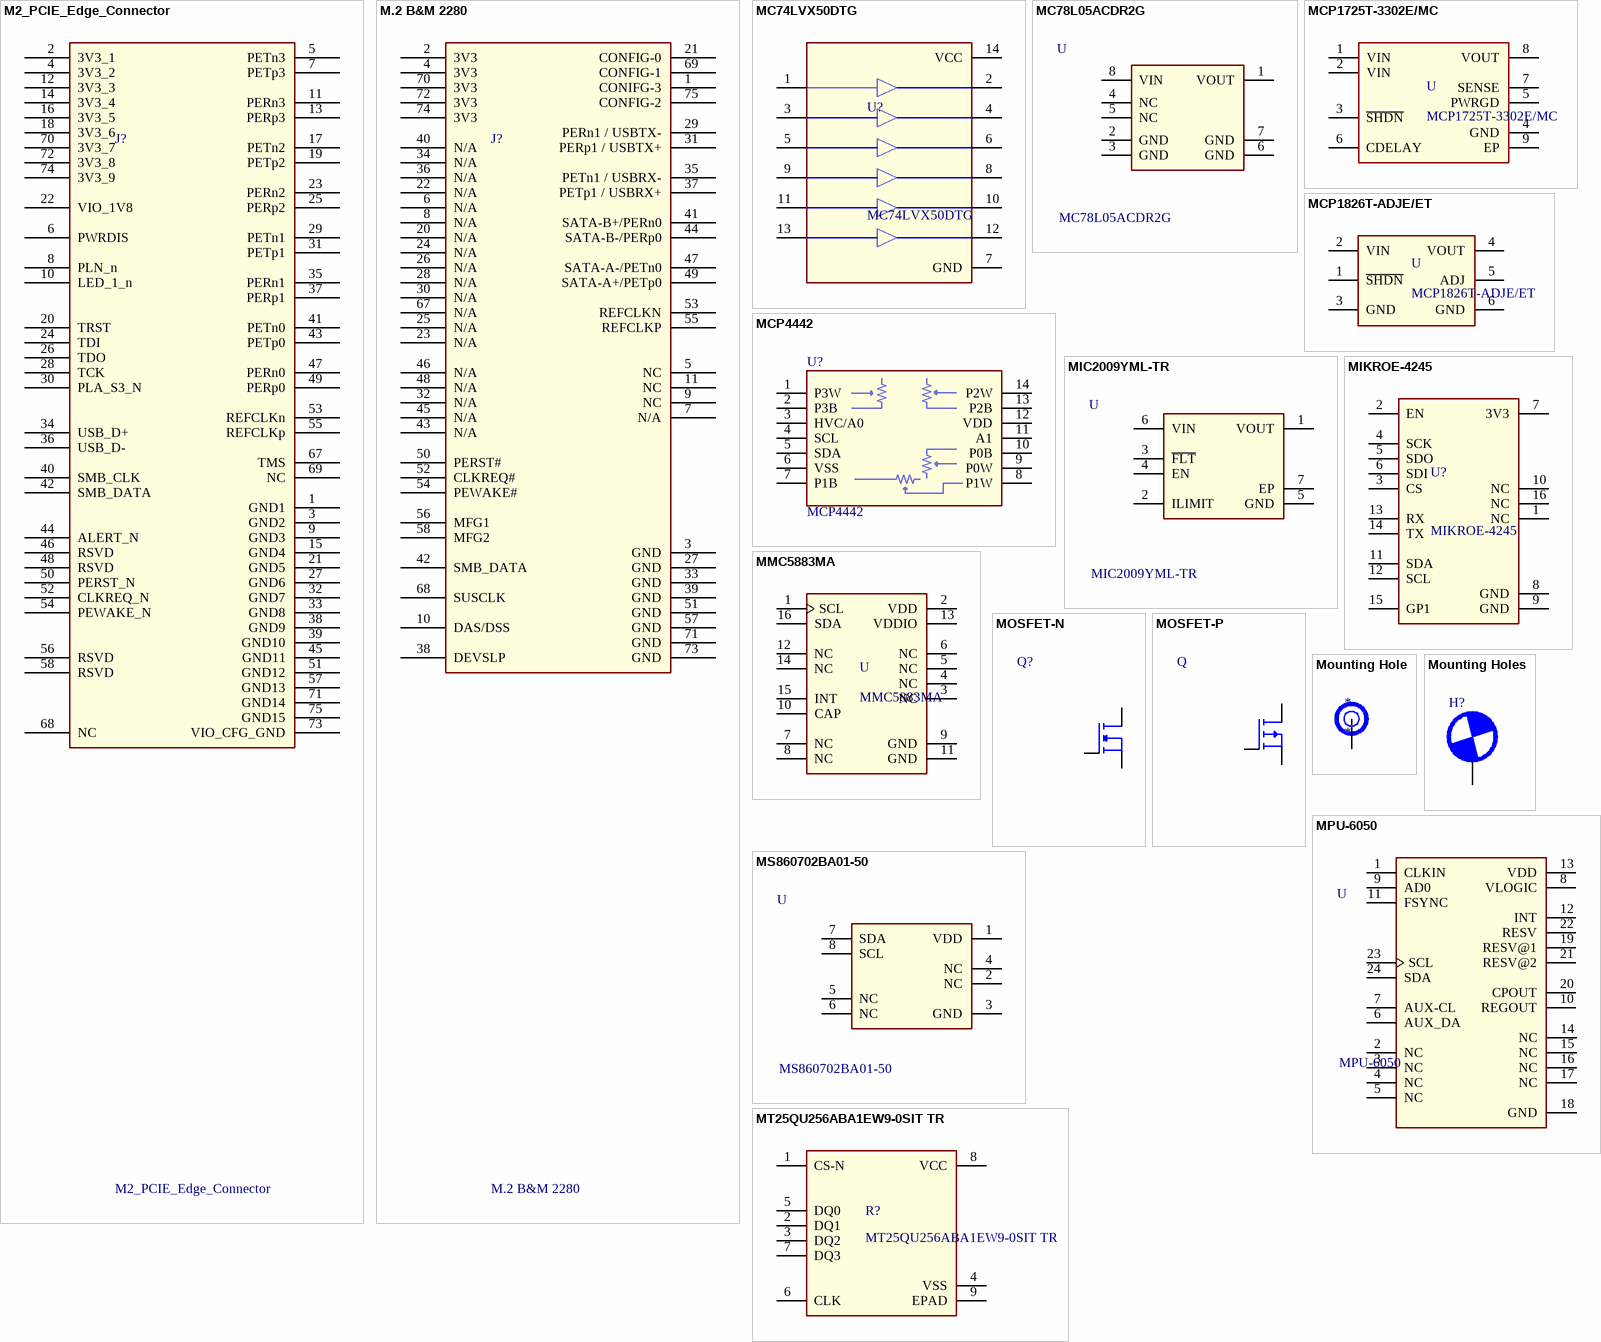
[diagram p5: symbols M2_PCIE_Edge_Connector to MT25QU256ABA1EW9-0SIT TR]

## M2_PCIE_Edge_Connector
designator J?
M.2 PCIE Edge connector, size 22110, Label D5 (1.5mm component height on top and bottom) and keyID M (PCIex4/SATA); Manufacturer: NO VALUE
footprint PCIE X4 CARD M2
footprint PCIE X4 CARD M2 80 (Footprint not found)
pins: 1 GND1, 2 3V3_1, 3 GND2, 4 3V3_2, 5 PETn3, 6 PWRDIS, 7 PETp3, 8 PLN_n, 9 GND3, 10 LED_1_n, 11 PERn3, 12 3V3_3, 13 PERp3, 14 3V3_4, 15 GND4, 16 3V3_5, 17 PETn2, 18 3V3_6, 19 PETp2, 20 TRST, 21 GND5, 22 VIO_1V8, 23 PERn2, 24 TDI, 25 PERp2, 26 TDO, 27 GND6, 28 TCK, 29 PETn1, 30 PLA_S3_N, 31 PETp1, 32 GND7, 33 GND8, 34 USB_D+, 35 PERn1, 36 USB_D-, 37 PERp1, 38 GND9, 39 GND10, 40 SMB_CLK, 41 PETn0, 42 SMB_DATA, 43 PETp0, 44 ALERT_N, 45 GND11, 46 RSVD, 47 PERn0, 48 RSVD, 49 PERp0, 50 PERST_N, 51 GND12, 52 CLKREQ_N, 53 REFCLKn, 54 PEWAKE_N, 55 REFCLKp, 56 RSVD, 57 GND13, 58 RSVD, 67 TMS, 68 NC, 69 NC, 70 3V3_7, 71 GND14, 72 3V3_8, 73 VIO_CFG_GND, 74 3V3_9, 75 GND15

## M.2 B&M 2280
designator J?
Manufacturer: NO VALUE
footprint M.2 2280 B&M
pins: 1 CONIFG-3, 2 3V3, 3 GND, 4 3V3, 5 NC, 6 N/A, 7 N/A, 8 N/A, 9 NC, 10 DAS/DSS, 11 NC, 20 N/A, 21 CONFIG-0, 22 N/A, 23 N/A, 24 N/A, 25 N/A, 26 N/A, 27 GND, 28 N/A, 29 PERn1 / USBTX-, 30 N/A, 31 PERp1 / USBTX+, 32 N/A, 33 GND, 34 N/A, 35 PETn1 / USBRX-, 36 N/A, 37 PETp1 / USBRX+, 38 DEVSLP, 39 GND, 40 N/A, 41 SATA-B+/PERn0, 42 SMB_DATA, 43 N/A, 44 SATA-B-/PERp0, 45 N/A, 46 N/A, 47 SATA-A-/PETn0, 48 N/A, 49 SATA-A+/PETp0, 50 PERST#, 51 GND, 52 CLKREQ#, 53 REFCLKN, 54 PEWAKE#, 55 REFCLKP, 56 MFG1, 57 GND, 58 MFG2, 67 N/A, 68 SUSCLK, 69 CONFIG-1, 70 3V3, 71 GND, 72 3V3, 73 GND, 74 3V3, 75 CONFIG-2

## MC74LVX50DTG
designator U?
IC BUF NON-INVERT 3.6V 14TSSOP; Unit Price (USD): 0.51; Mfr. Part No.: MC74LVX50DTG; Supplier Part No.: MC74LVX50DTG-ND; Supplier: Digikey Electronics
footprint TSSOP-14 (W4.40mm) B
pins: 1, 2, 3, 4, 5, 6, 7 GND, 8, 9, 10, 11, 12, 13, 14 VCC

## MC78L05ACDR2G
designator U
IC REG LINEAR 5V 100MA 8SOIC; Unit Price (USD): 0.42; Mfr. Part No.: MC78L05ACDR2G; Supplier Part No.: MC78L05ACDR2GOSCT-ND; Supplier: Digikey Electronics
pins: 1 VOUT, 2 GND, 3 GND, 4 NC, 5 NC, 6 GND, 7 GND, 8 VIN

## MCP1725T-3302E/MC
designator U
IC REG LINEAR 3.3V 500MA 8DFN; Unit Price (USD): 0.54; Supplier Part No.: MCP1725T-3302E/MCTR-ND; Mfr. Part No.: MCP1725T-3302E/MC; Supplier: Digikey Electronics
footprint 8-VFDFN (2x3) -EP
pins: 1 VIN, 2 VIN, 3 ~{SHDN}, 4 GND, 5 PWRGD, 6 CDELAY, 7 SENSE, 8 VOUT, 9 EP

## MCP1826T-ADJE/ET
designator U
Mfr. Part No.: MCP1826T-ADJE/ET; Supplier: Digikey Electronics
pins: 1 ~{SHDN}, 2 VIN, 3 GND, 4 VOUT, 5 ADJ, 6 GND

## MCP4442
designator U?
IC DGT POT 50KOHM 129TAP 14TSSOP; Mfr. Part No.: MCP4442-503E/ST; Unit Price (USD): 1.35; Supplier Part No.: MCP4442-503E/ST-ND; Supplier: Digikey Electronics
footprint TSSOP-14 (W4.40mm)
pins: 1 P3W, 2 P3B, 3 HVC/A0, 4 SCL, 5 SDA, 6 VSS, 7 P1B, 8 P1W, 9 P0W, 10 P0B, 11 A1, 12 VDD, 13 P2B, 14 P2W

## MIC2009YML-TR
designator U
IC PWR SWITCH P-CHAN 1:1 6MLF; Unit Price (USD): 1.23; Mfr. Part No.: MIC2009YML-TR; Supplier Part No.: 576-1681-1-ND; Supplier: Digikey Electronics
footprint VDFN-6/MLF-6 (2x2)
pins: 1 VOUT, 2 ILIMIT, 3 ~{FLT}, 4 EN, 5 GND, 6 VIN, 7 EP

## MIKROE-4245
designator U?
BW16 WiFi RF mikroBUS™ Click™ Platform Evaluation Expansion Board; Unit Price (USD): 29; Mfr. Part No.: MIKROE-4245; Supplier Part No.: 1471-MIKROE-4245-ND; Supplier: Digikey Electronics
pins: 1 NC, 2 EN, 3 CS, 4 SCK, 5 SDO, 6 SDI, 7 3V3, 8 GND, 9 GND, 10 NC, 11 SDA, 12 SCL, 13 RX, 14 TX, 15 GP1, 16 NC

## MMC5883MA
designator U
Unit Price (USD): 4.93; Supplier Part No.: 1267-1072-2-ND; Mfr. Part No.: MMC5883MA; Supplier: Digikey Electronics
pins: 1 SCL, 2 VDD, 3 NC, 4 NC, 5 NC, 6 NC, 7 NC, 8 NC, 9 GND, 10 CAP, 11 GND, 12 NC, 13 VDDIO, 14 NC, 15 INT, 16 SDA

## MOSFET-N
designator Q?
Supplier: Digikey Electronics
pins: 1 G, 2 S, 3 D

## MOSFET-P
designator Q
Supplier: Digikey Electronics
pins: 1, 2, 3

## Mounting Hole
designator *
pins: 1

## Mounting Holes
designator H?
footprint M2.5-SCREW
pins: 1

## MPU-6050
designator U
IMU ACCEL/GYRO 3-AXIS I2C 24QFN; Unit Price (USD): 7.55; Mfr. Part No.: MPU-6050; Supplier Part No.: 1428-1007-2-ND; Supplier: Digikey Electronics
pins: 1 CLKIN, 2 NC, 3 NC, 4 NC, 5 NC, 6 AUX_DA, 7 AUX-CL, 8 VLOGIC, 9 AD0, 10 REGOUT, 11 FSYNC, 12 INT, 13 VDD, 14 NC, 15 NC, 16 NC, 17 NC, 18 GND, 19 RESV@1, 20 CPOUT, 21 RESV@2, 22 RESV, 23 SCL, 24 SDA

## MS860702BA01-50
designator U
PRESSURE TEMP HUMIDITY SENSOR; Unit Price (USD): 8.01; Mfr. Part No.: MS860702BA01-50; Supplier Part No.: 223-1701-2-ND; Supplier: Digikey Electronics
pins: 1 VDD, 2 NC, 3 GND, 4 NC, 5 NC, 6 NC, 7 SDA, 8 SCL

## MT25QU256ABA1EW9-0SIT TR
designator R?
IC FLASH 256MBIT SPI 8WPDFN; Unit Price (USD): 3.71; Mfr. Part No.: MT25QU256ABA1EW9-0SIT TR; Supplier Part No.: 557-1825-2-ND; Supplier: Digikey Electronics
pins: 1 CS-N, 2 DQ1, 3 DQ2, 4 VSS, 5 DQ0, 6 CLK, 7 DQ3, 8 VCC, 9 EPAD

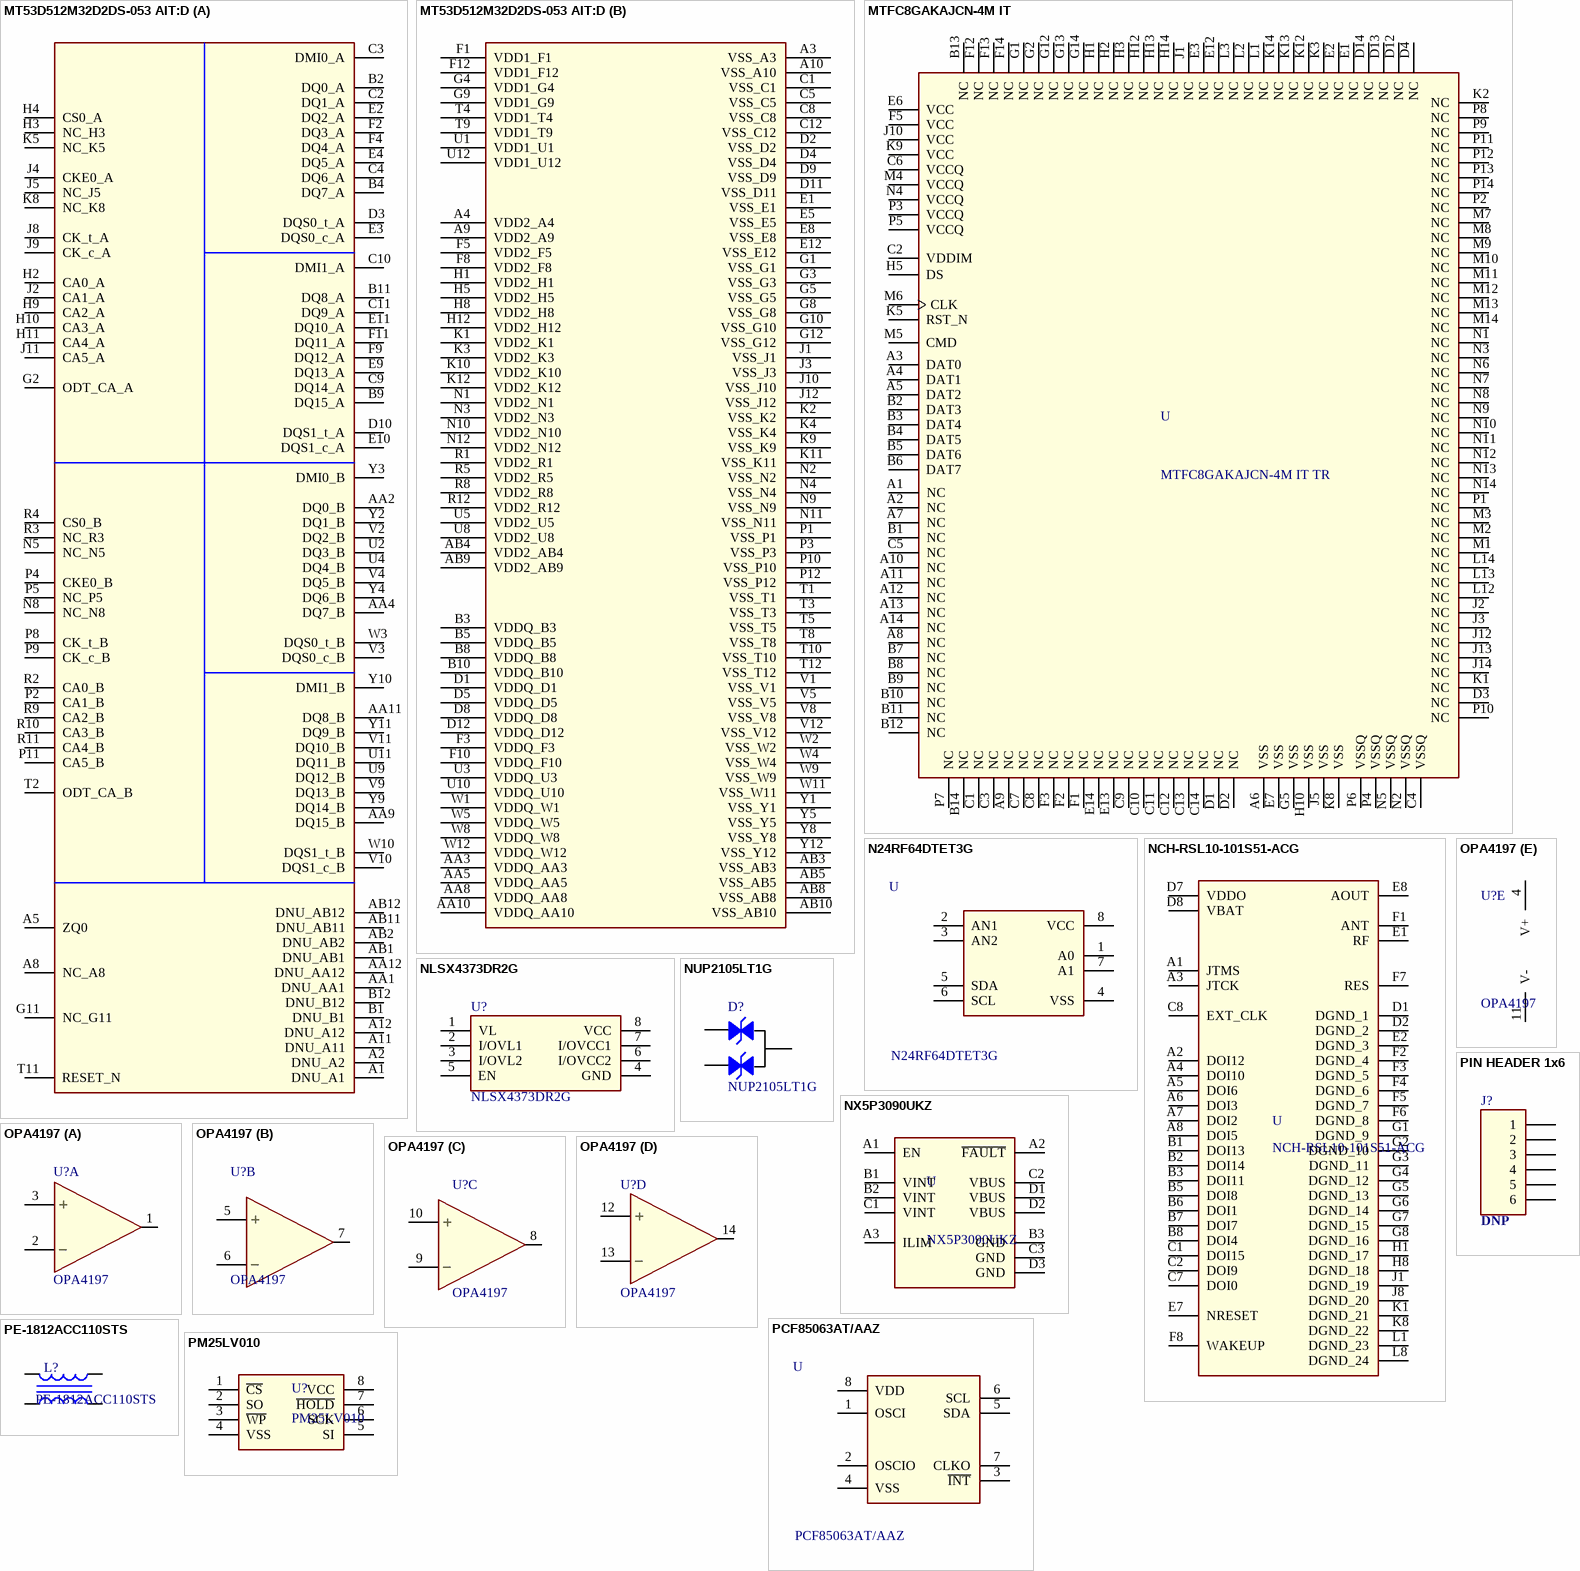
[diagram p6: symbols MT53D512M32D2DS-053 AIT:D to PM25LV010]

## MT53D512M32D2DS-053 AIT:D
designator U?  (value not drawn)
IC DRAM 16GBIT 1866MHZ 200WFBGA; Unit Price (USD): 23.25; Mfr. Part No.: MT53D512M32D2DS-053 AIT:D; Supplier: Digikey Electronics; Supplier Part No.: MT53D512M32D2DS-053AIT:D-ND
footprint WFBGA-200 (10x14.5)
part A pins: A1 DNU_A1, A2 DNU_A2, A5 ZQ0, A8 NC_A8, A11 DNU_A11, A12 DNU_A12, AA1 DNU_AA1, AA2 DQ0_B, AA4 DQ7_B, AA9 DQ15_B, AA11 DQ8_B, AA12 DNU_AA12, AB1 DNU_AB1, AB2 DNU_AB2, AB11 DNU_AB11, AB12 DNU_AB12, B1 DNU_B1, B2 DQ0_A, B4 DQ7_A, B9 DQ15_A, B11 DQ8_A, B12 DNU_B12, C2 DQ1_A, C3 DMI0_A, C4 DQ6_A, C9 DQ14_A, C10 DMI1_A, C11 DQ9_A, D3 DQS0_t_A, D10 DQS1_t_A, E2 DQ2_A, E3 DQS0_c_A, E4 DQ5_A, E9 DQ13_A, E10 DQS1_c_A, E11 DQ10_A, F2 DQ3_A, F4 DQ4_A, F9 DQ12_A, F11 DQ11_A, G2 ODT_CA_A, G11 NC_G11, H2 CA0_A, H3 NC_H3, H4 CS0_A, H9 CA2_A, H10 CA3_A, H11 CA4_A, J2 CA1_A, J4 CKE0_A, J5 NC_J5, J8 CK_t_A, J9 CK_c_A, J11 CA5_A, K5 NC_K5, K8 NC_K8, N5 NC_N5, N8 NC_N8, P2 CA1_B, P4 CKE0_B, P5 NC_P5, P8 CK_t_B, P9 CK_c_B, P11 CA5_B, R2 CA0_B, R3 NC_R3, R4 CS0_B, R9 CA2_B, R10 CA3_B, R11 CA4_B, T2 ODT_CA_B, T11 RESET_N, U2 DQ3_B, U4 DQ4_B, U9 DQ12_B, U11 DQ11_B, V2 DQ2_B, V3 DQS0_c_B, V4 DQ5_B, V9 DQ13_B, V10 DQS1_c_B, V11 DQ10_B, W3 DQS0_t_B, W10 DQS1_t_B, Y2 DQ1_B, Y3 DMI0_B, Y4 DQ6_B, Y9 DQ14_B, Y10 DMI1_B, Y11 DQ9_B
part B pins: A3 VSS_A3 (power), A4 VDD2_A4 (power), A9 VDD2_A9 (power), A10 VSS_A10 (power), AA3 VDDQ_AA3 (power), AA5 VDDQ_AA5 (power), AA8 VDDQ_AA8 (power), AA10 VDDQ_AA10 (power), AB3 VSS_AB3 (power), AB4 VDD2_AB4 (power), AB5 VSS_AB5 (power), AB8 VSS_AB8 (power), AB9 VDD2_AB9 (power), AB10 VSS_AB10 (power), B3 VDDQ_B3 (power), B5 VDDQ_B5 (power), B8 VDDQ_B8 (power), B10 VDDQ_B10 (power), C1 VSS_C1 (power), C5 VSS_C5 (power), C8 VSS_C8 (power), C12 VSS_C12 (power), D1 VDDQ_D1 (power), D2 VSS_D2 (power), D4 VSS_D4 (power), D5 VDDQ_D5 (power), D8 VDDQ_D8 (power), D9 VSS_D9 (power), D11 VSS_D11 (power), D12 VDDQ_D12 (power), E1 VSS_E1 (power), E5 VSS_E5 (power), E8 VSS_E8 (power), E12 VSS_E12 (power), F1 VDD1_F1 (power), F3 VDDQ_F3 (power), F5 VDD2_F5 (power), F8 VDD2_F8 (power), F10 VDDQ_F10 (power), F12 VDD1_F12 (power), G1 VSS_G1 (power), G3 VSS_G3 (power), G4 VDD1_G4 (power), G5 VSS_G5 (power), G8 VSS_G8 (power), G9 VDD1_G9 (power), G10 VSS_G10 (power), G12 VSS_G12 (power), H1 VDD2_H1 (power), H5 VDD2_H5 (power), H8 VDD2_H8 (power), H12 VDD2_H12 (power), J1 VSS_J1 (power), J3 VSS_J3 (power), J10 VSS_J10 (power), J12 VSS_J12 (power), K1 VDD2_K1 (power), K2 VSS_K2 (power), K3 VDD2_K3 (power), K4 VSS_K4 (power), K9 VSS_K9 (power), K10 VDD2_K10 (power), K11 VSS_K11 (power), K12 VDD2_K12 (power), N1 VDD2_N1 (power), N2 VSS_N2 (power), N3 VDD2_N3 (power), N4 VSS_N4 (power), N9 VSS_N9 (power), N10 VDD2_N10 (power), N11 VSS_N11 (power), N12 VDD2_N12 (power), P1 VSS_P1 (power), P3 VSS_P3 (power), P10 VSS_P10 (power), P12 VSS_P12 (power), R1 VDD2_R1 (power), R5 VDD2_R5 (power), R8 VDD2_R8 (power), R12 VDD2_R12 (power), T1 VSS_T1 (power), T3 VSS_T3 (power), T4 VDD1_T4 (power), T5 VSS_T5 (power), T8 VSS_T8 (power), T9 VDD1_T9 (power), T10 VSS_T10 (power), T12 VSS_T12 (power), U1 VDD1_U1 (power), U3 VDDQ_U3 (power), U5 VDD2_U5 (power), U8 VDD2_U8 (power), U10 VDDQ_U10 (power), U12 VDD1_U12 (power), V1 VSS_V1 (power), V5 VSS_V5 (power), V8 VSS_V8 (power), V12 VSS_V12 (power), W1 VDDQ_W1 (power), W2 VSS_W2 (power), W4 VSS_W4 (power), W5 VDDQ_W5 (power), W8 VDDQ_W8 (power), W9 VSS_W9 (power), W11 VSS_W11 (power), W12 VDDQ_W12 (power), Y1 VSS_Y1 (power), Y5 VSS_Y5 (power), Y8 VSS_Y8 (power), Y12 VSS_Y12 (power)

## MTFC8GAKAJCN-4M IT
designator U, comment MTFC8GAKAJCN-4M IT TR
IC FLASH 64GBIT MMC 153VFBGA; Unit Price (USD): 14.4; Mfr. Part No.: MTFC8GAKAJCN-4M IT TR; Supplier Part No.: 557-1978-2-ND; Supplier: Digikey Electronics
footprint VFBGA (11.5x13)
pins: A1 NC, A2 NC, A3 DAT0, A4 DAT1, A5 DAT2, A6 VSS, A7 NC, A8 NC, A9 NC, A10 NC, A11 NC, A12 NC, A13 NC, A14 NC, B1 NC, B2 DAT3, B3 DAT4, B4 DAT5, B5 DAT6, B6 DAT7, B7 NC, B8 NC, B9 NC, B10 NC, B11 NC, B12 NC, B13 NC, B14 NC, C1 NC, C2 VDDIM, C3 NC, C4 VSSQ, C5 NC, C6 VCCQ, C7 NC, C8 NC, C9 NC, C10 NC, C11 NC, C12 NC, C13 NC, C14 NC, D1 NC, D2 NC, D3 NC, D4 NC, D12 NC, D13 NC, D14 NC, E1 NC, E2 NC, E3 NC, E6 VCC, E7 VSS, E12 NC, E13 NC, E14 NC, F1 NC, F2 NC, F3 NC, F5 VCC, F12 NC, F13 NC, F14 NC, G1 NC, G2 NC, G5 VSS, G12 NC, G13 NC, G14 NC, H1 NC, H2 NC, H3 NC, H5 DS, H10 VSS, H12 NC, H13 NC, H14 NC, J1 NC, J2 NC, J3 NC, J5 VSS, J10 VCC, J12 NC, J13 NC, J14 NC, K1 NC, K2 NC, K3 NC, K5 RST_N, K8 VSS, K9 VCC, K12 NC, K13 NC, K14 NC, L1 NC, L2 NC, L3 NC, L12 NC, L13 NC, L14 NC, M1 NC, M2 NC, M3 NC, M4 VCCQ, M5 CMD, M6 CLK, M7 NC, M8 NC, M9 NC, M10 NC, M11 NC, M12 NC, M13 NC, M14 NC, N1 NC, N2 VSSQ, N3 NC, N4 VCCQ, N5 VSSQ, N6 NC, N7 NC, N8 NC, N9 NC, N10 NC, N11 NC, N12 NC, N13 NC, N14 NC, P1 NC, P2 NC, P3 VCCQ, P4 VSSQ, P5 VCCQ, P6 VSSQ, P7 NC, P8 NC, P9 NC, P10 NC, P11 NC, P12 NC, P13 NC, P14 NC

## N24RF64DTET3G
designator U
IC RFID TRANSP 13.56MHZ 8TSSOP; Unit Price (USD): 1.35; Mfr. Part No.: N24RF64DTET3G; Supplier Part No.: N24RF64DTPT3GOSTR-ND; Supplier: Digikey Electronics
pins: 1 A0, 2 AN1, 3 AN2, 4 VSS, 5 SDA, 6 SCL, 7 A1, 8 VCC

## NCH-RSL10-101S51-ACG
designator U
IC RF TxRx + MCU Bluetooth Bluetooth v5.0 2.36GHz ~ 2.5GHz 51-SMD Module; Unit Price (USD): 11.55; Mfr. Part No.: NCH-RSL10-101S51-ACG; Supplier Part No.: NCH-RSL10-101S51-ACGOSTR-ND; Supplier: Digikey Electronics
footprint NCHRSL10101S51ACG
pins: A1 JTMS, A2 DOI12, A3 JTCK, A4 DOI10, A5 DOI6, A6 DOI3, A7 DOI2, A8 DOI5, B1 DOI13, B2 DOI14, B3 DOI11, B5 DOI8, B6 DOI1, B7 DOI7, B8 DOI4, C1 DOI15, C2 DOI9, C7 DOI0, C8 EXT_CLK, D1 DGND_1, D2 DGND_2, D7 VDDO, D8 VBAT, E1 RF, E2 DGND_3, E7 NRESET, E8 AOUT, F1 ANT, F2 DGND_4, F3 DGND_5, F4 DGND_6, F5 DGND_7, F6 DGND_8, F7 RES, F8 WAKEUP, G1 DGND_9, G2 DGND_10, G3 DGND_11, G4 DGND_12, G5 DGND_13, G6 DGND_14, G7 DGND_15, G8 DGND_16, H1 DGND_17, H8 DGND_18, J1 DGND_19, J8 DGND_20, K1 DGND_21, K8 DGND_22, L1 DGND_23, L8 DGND_24

## NLSX4373DR2G
designator U?
No Description Available; Vendor: ON Semiconductor; SourceLibrary: ONSemi_2017-12-12_2; Manufacturer_Part_Number: NLSX4373DR2G; Copyright: Copyright (C) 2016 Accelerated Designs. All rights reserved; RefDes: RefDes; Type: DEV
footprint SOIC-8 (W3.9mm) A
footprint 8-UDFN (1.8x1.2)
pins: 1 VL, 2 I/OVL1, 3 I/OVL2, 4 GND, 5 EN, 6 I/OVCC2, 7 I/OVCC1, 8 VCC

## NUP2105LT1G
designator D?
TVS DIODE 24V 44V SOT23-3; Unit Price (USD): 0.44; Mfr. Part No.: NUP2105LT1G; Supplier Part No.: NUP2105LT1GOSCT-ND; Supplier: Digikey Electronics
footprint SOT-23-3
footprint SOT-23-3
pins: 1, 2, 3

## NX5P3090UKZ
designator U
IC USB SWITCH DPDT 10MSOP; Unit Price (USD): 1.13; Mfr. Part No.: NX5P3090UKZ; Supplier Part No.: 568-13049-2-ND; Supplier: Digikey Electronics
footprint 12-WLCSP (1.65x1.35)
pins: A1 EN, A2 ~{FAULT}, A3 ILIM, B1 VINT, B2 VINT, B3 GND, C1 VINT, C2 VBUS, C3 GND, D1 VBUS, D2 VBUS, D3 GND

## OPA4197
designator U?
IC OPAMP GP 4 CIRCUIT 14TSSOP; Mfr. Part No.: OPA4197IPWR; Unit Price (USD): 3.24; Supplier Part No.: 296-45060-1-ND; Supplier: Digikey Electronics
footprint TSSOP-14 (W4.40mm) B
part A pins: 1 OUTA, 2 -INA, 3 +INA
part B pins: 5 +INB, 6 -INB, 7 OUTB
part C pins: 8 OUTC, 9 -INC, 10 +INC
part D pins: 12 +IND, 13 -IND, 14 OUTD
part E pins: 4 V+, 11 V-

## PCF85063AT/AAZ
designator U
IC RTC CLK/CALENDAR I2C 8SOIC; Unit Price (USD): 0.335; Mfr. Part No.: PCF85063AT/AAZ; Supplier Part No.: 568-PCF85063AT/AAZCT-ND; Supplier: Digikey Electronics
pins: 1 OSCI, 2 OSCIO, 3 ~{INT}, 4 VSS, 5 SDA, 6 SCL, 7 CLKO, 8 VDD

## PE-1812ACC110STS
designator L?
CMC 360MA 2LN 600OHM SMD AECQ200; Unit Price (USD): 0.92; Mfr. Part No.: PE-1812ACC110STS; Supplier Part No.: 553-2563-2-ND; Supplier: Digikey Electronics
footprint 4.3x4.3mm
pins: 1, 2, 3, 4

## PIN HEADER 1x6
designator J?, comment DNP
Supplier Part No.: *; Unit Price (USD): *; Value: *
footprint PIN HEADER MALE 2MM 6-PIN (Connector; Header; 6 Position)
footprint Pin Header 1x6 2.54mm
pins: 1 (power), 2 (power), 3 (power), 4 (power), 5 (power), 6 (power)

## PM25LV010
designator U?
Serial Flash Memory With 25 MHz SPI Bus Interface
footprint SOIC-8 (W3.9mm)
pins: 1 ~{CS}, 2 SO, 3 ~{WP}, 4 VSS, 5 SI, 6 SCK, 7 ~{HOLD}, 8 VCC

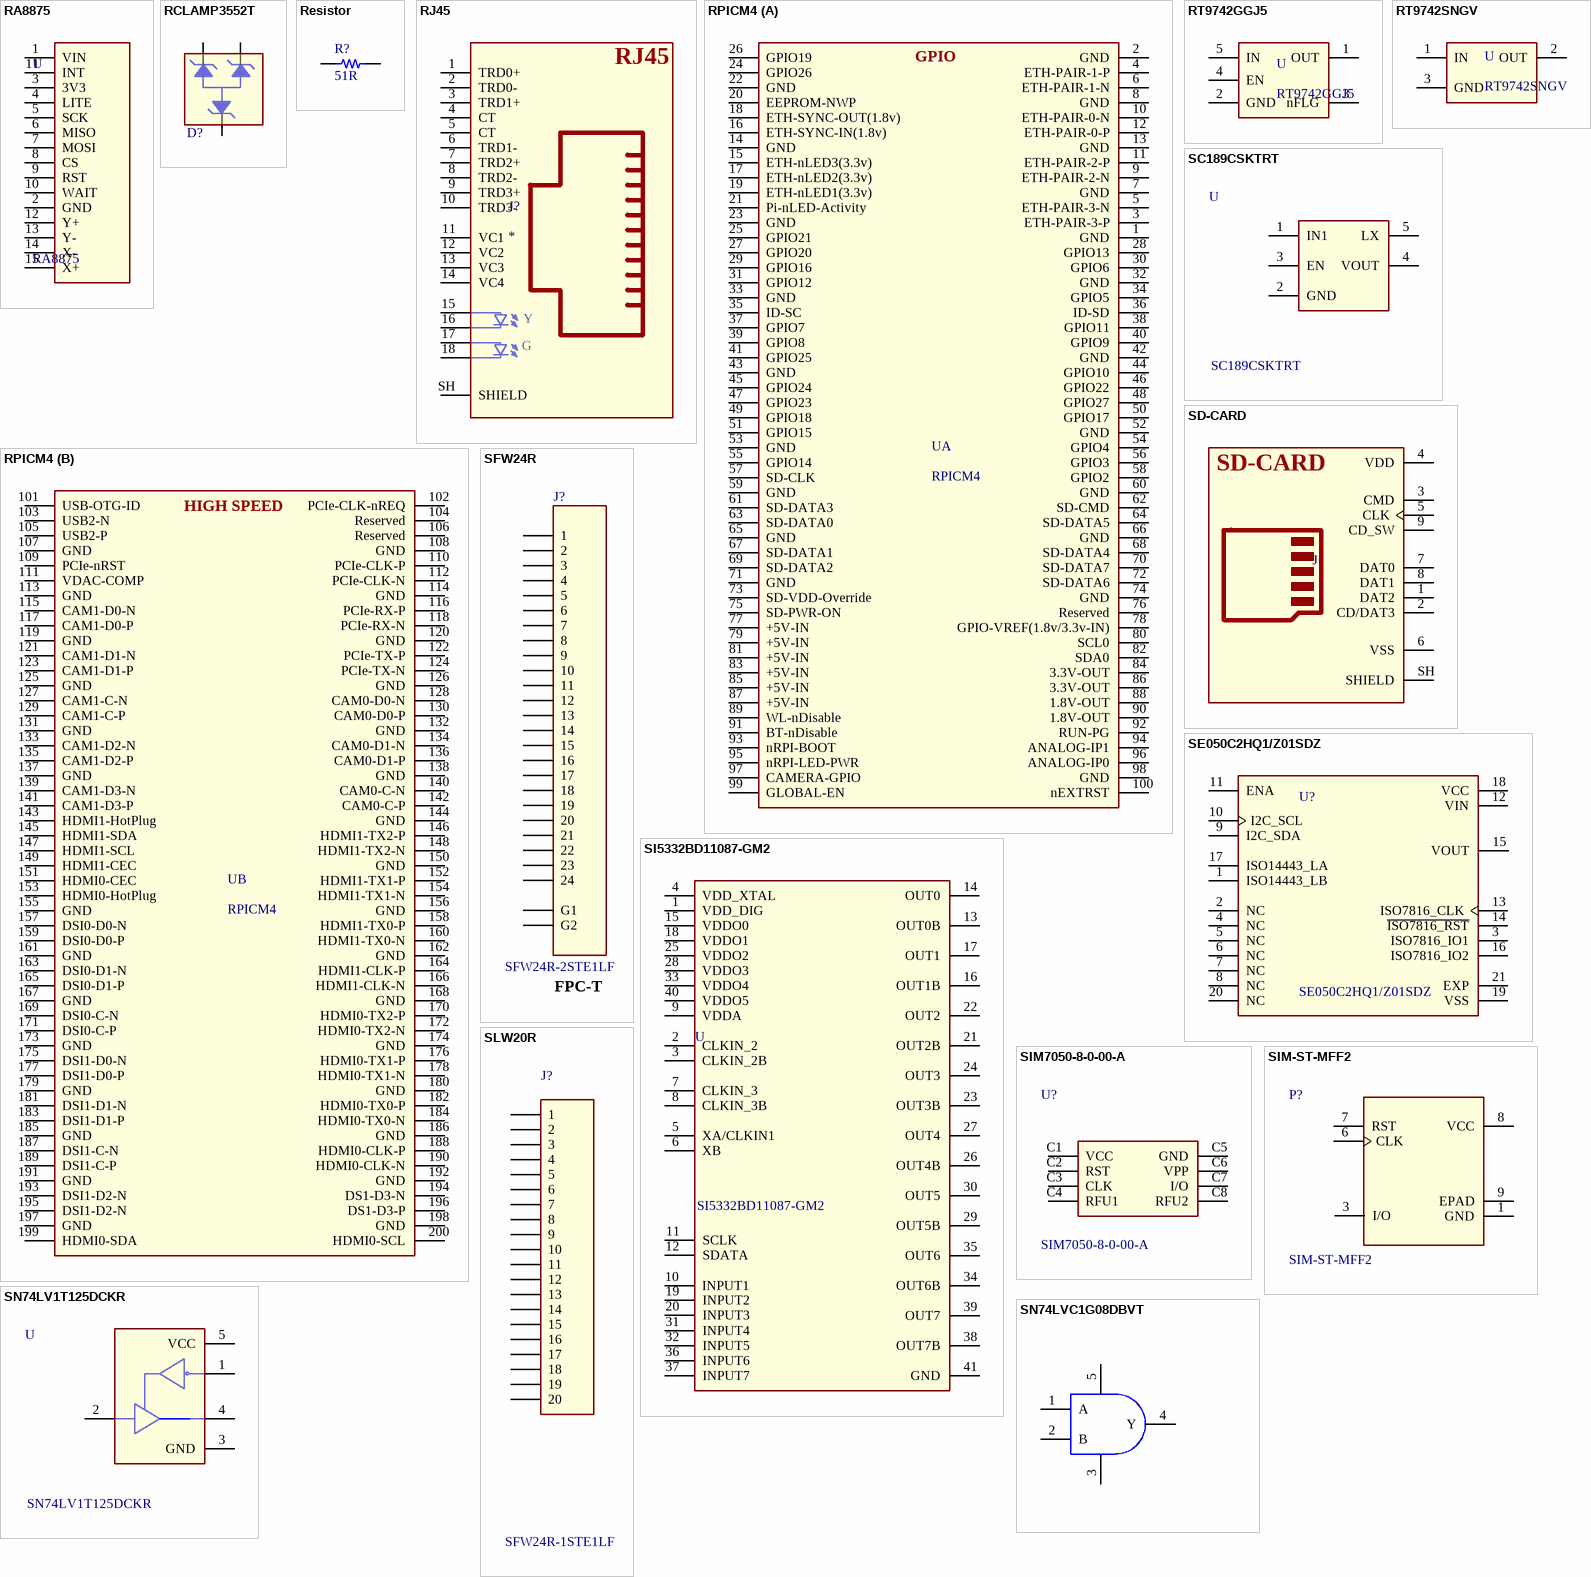
[diagram p7: symbols RA8875 to SN74LVC1G08DBVT]

## RA8875
designator U
RA8875 DRIVER BOARD FOR 40P TFT; Mfr. Part No.: 1590; Unit Price (USD): 34.59; Supplier: Digikey Electronics; Supplier Part No.: 1528-1861-ND
footprint RA8875
pins: 1 VIN, 2 GND, 3 3V3, 4 LITE, 5 SCK, 6 MISO, 7 MOSI, 8 CS, 9 RST, 10 WAIT, 11 INT, 12 Y+, 13 Y-, 14 X-, 15 X+

## RCLAMP3552T
designator D?  (value not drawn)
TVS DIODE 3.5V 6.5V SLP1006N3T; Mfr. Part No.: RCLAMP3552T.TNT; Unit Price (USD): 0.48; Supplier Part No.: RCLAMP3552T.TNTCT-ND; Supplier: Digikey Electronics
footprint 3-XDFN
pins: 1, 2, 3

## Resistor
designator R?, comment 51R
RES SMD 51 OHM 0.5% 1/16W 0402; Mfr. Part No.: ERA-2AED510X; Unit Price (USD): 0.21; Value: 51R; Supplier Part No.: P51DECT-ND; Supplier: Digikey Electronics
footprint R-0402
footprint R-0603 (Chip Resistor, 2-Leads, Body 1.60x0.80mm, IPC Medium Density)
pins: 1, 2

## RJ45
designator J?
RJ45 MAGNETIC JACK WITH LED; MF: EDAC; MP: A70-112-331N126; Value: *; SnapEDA_Link: https://www.snapeda.com/parts/A70-112-331N126/EDAC%20Inc./view-part/4967938/?ref=snap; Availability: Unavailable; Price: None; Package: Package
footprint EDAC_A70-112-331N126
pins: 1 TRD0+, 2 TRD0-, 3 TRD1+, 4 CT, 5 CT, 6 TRD1-, 7 TRD2+, 8 TRD2-, 9 TRD3+, 10 TRD3-, 11 VC1, 12 VC2, 13 VC3, 14 VC4, 15 G_A, 16 G_K, 17 Y_A, 18 Y_K, SH SHIELD
text: Y; G

## RPICM4
designator U
part A pins: 1 GND, 2 GND, 3 ETH-PAIR-3-P, 4 ETH-PAIR-1-P, 5 ETH-PAIR-3-N, 6 ETH-PAIR-1-N, 7 GND, 8 GND, 9 ETH-PAIR-2-N, 10 ETH-PAIR-0-N, 11 ETH-PAIR-2-P, 12 ETH-PAIR-0-P, 13 GND, 14 GND, 15 ETH-nLED3(3.3v), 16 ETH-SYNC-IN(1.8v), 17 ETH-nLED2(3.3v), 18 ETH-SYNC-OUT(1.8v), 19 ETH-nLED1(3.3v), 20 EEPROM-NWP, 21 Pi-nLED-Activity, 22 GND, 23 GND, 24 GPIO26, 25 GPIO21, 26 GPIO19, 27 GPIO20, 28 GPIO13, 29 GPIO16, 30 GPIO6, 31 GPIO12, 32 GND, 33 GND, 34 GPIO5, 35 ID-SC, 36 ID-SD, 37 GPIO7, 38 GPIO11, 39 GPIO8, 40 GPIO9, 41 GPIO25, 42 GND, 43 GND, 44 GPIO10, 45 GPIO24, 46 GPIO22, 47 GPIO23, 48 GPIO27, 49 GPIO18, 50 GPIO17, 51 GPIO15, 52 GND, 53 GND, 54 GPIO4, 55 GPIO14, 56 GPIO3, 57 SD-CLK, 58 GPIO2, 59 GND, 60 GND, 61 SD-DATA3, 62 SD-CMD, 63 SD-DATA0, 64 SD-DATA5, 65 GND, 66 GND, 67 SD-DATA1, 68 SD-DATA4, 69 SD-DATA2, 70 SD-DATA7, 71 GND, 72 SD-DATA6, 73 SD-VDD-Override, 74 GND, 75 SD-PWR-ON, 76 Reserved, 77 +5V-IN, 78 GPIO-VREF(1.8v/3.3v-IN), 79 +5V-IN, 80 SCL0, 81 +5V-IN, 82 SDA0, 83 +5V-IN, 84 3.3V-OUT, 85 +5V-IN, 86 3.3V-OUT, 87 +5V-IN, 88 1.8V-OUT, 89 WL-nDisable, 90 1.8V-OUT, 91 BT-nDisable, 92 RUN-PG, 93 nRPI-BOOT, 94 ANALOG-IP1, 95 nRPI-LED-PWR, 96 ANALOG-IP0, 97 CAMERA-GPIO, 98 GND, 99 GLOBAL-EN, 100 nEXTRST
part B pins: 101 USB-OTG-ID, 102 PCIe-CLK-nREQ, 103 USB2-N, 104 Reserved, 105 USB2-P, 106 Reserved, 107 GND, 108 GND, 109 PCIe-nRST, 110 PCIe-CLK-P, 111 VDAC-COMP, 112 PCIe-CLK-N, 113 GND, 114 GND, 115 CAM1-D0-N, 116 PCIe-RX-P, 117 CAM1-D0-P, 118 PCIe-RX-N, 119 GND, 120 GND, 121 CAM1-D1-N, 122 PCIe-TX-P, 123 CAM1-D1-P, 124 PCIe-TX-N, 125 GND, 126 GND, 127 CAM1-C-N, 128 CAM0-D0-N, 129 CAM1-C-P, 130 CAM0-D0-P, 131 GND, 132 GND, 133 CAM1-D2-N, 134 CAM0-D1-N, 135 CAM1-D2-P, 136 CAM0-D1-P, 137 GND, 138 GND, 139 CAM1-D3-N, 140 CAM0-C-N, 141 CAM1-D3-P, 142 CAM0-C-P, 143 HDMI1-HotPlug, 144 GND, 145 HDMI1-SDA, 146 HDMI1-TX2-P, 147 HDMI1-SCL, 148 HDMI1-TX2-N, 149 HDMI1-CEC, 150 GND, 151 HDMI0-CEC, 152 HDMI1-TX1-P, 153 HDMI0-HotPlug, 154 HDMI1-TX1-N, 155 GND, 156 GND, 157 DSI0-D0-N, 158 HDMI1-TX0-P, 159 DSI0-D0-P, 160 HDMI1-TX0-N, 161 GND, 162 GND, 163 DSI0-D1-N, 164 HDMI1-CLK-P, 165 DSI0-D1-P, 166 HDMI1-CLK-N, 167 GND, 168 GND, 169 DSI0-C-N, 170 HDMI0-TX2-P, 171 DSI0-C-P, 172 HDMI0-TX2-N, 173 GND, 174 GND, 175 DSI1-D0-N, 176 HDMI0-TX1-P, 177 DSI1-D0-P, 178 HDMI0-TX1-N, 179 GND, 180 GND, 181 DSI1-D1-N, 182 HDMI0-TX0-P, 183 DSI1-D1-P, 184 HDMI0-TX0-N, 185 GND, 186 GND, 187 DSI1-C-N, 188 HDMI0-CLK-P, 189 DSI1-C-P, 190 HDMI0-CLK-N, 191 GND, 192 GND, 193 DSI1-D2-N, 194 DS1-D3-N, 195 DSI1-D2-N, 196 DS1-D3-P, 197 GND, 198 GND, 199 HDMI0-SDA, 200 HDMI0-SCL
part A text: GPIO
part B text: HIGH SPEED

## RT9742GGJ5
designator U
IC PWR SWTCH N-CHAN 1:1 TSOT23-5; Unit Price (USD): 1.52; Supplier Part No.: 1028-1436-1-ND; Mfr. Part No.: RT9742GGJ5; Supplier: Digikey Electronics
pins: 1 OUT, 2 GND, 3 nFLG, 4 EN, 5 IN

## RT9742SNGV
designator U
IC PWR SWITCH N-CHAN 1:1 SOT23-3; Unit Price (USD): *; Supplier Part No.: *; Mfr. Part No.: *; Supplier: *
pins: 1 IN, 2 OUT, 3 GND

## SC189CSKTRT
designator U
IC REG BUCK 1.2V 1.5A SOT23-5; Unit Price (USD): 1.12; Mfr. Part No.: SC189CSKTRT; Supplier Part No.: SC189CSKCT-ND; Supplier: Digikey Electronics
footprint SOT-23-5 (SOT23, 5-Leads, Body 3.00x2.85mm, Pitch 0.95mm, IPC Medium Density)
pins: 1 IN1, 2 GND, 3 EN, 4 VOUT, 5 LX

## SD-CARD
designator J
MICRO SD PUSH/PUSH SMALL 8C; Mfr. Part No.: 5033981892; Unit Price (USD): 2.41; Supplier Part No.: WM11190CT-ND; Supplier: Digikey Electronics
pins: 1 DAT2, 2 CD/DAT3, 3 CMD, 4 VDD (power), 5 CLK, 6 VSS (power), 7 DAT0, 8 DAT1, 9 CD_SW (power), SH SHIELD

## SE050C2HQ1/Z01SDZ
designator U?
ECC RSA AES DES MIFARE KDF CL-IF; Unit Price (USD): 4.05; Mfr. Part No.: SE050C2HQ1/Z01SDZ; Supplier: Digikey Electronics; Supplier Part No.: 568-15378-2-ND
footprint 20-HX2QFN (3x3)
pins: 1 ISO14443_LB, 2 NC, 3 ISO7816_IO1, 4 NC, 5 NC, 6 NC, 7 NC, 8 NC, 9 I2C_SDA, 10 I2C_SCL, 11 ENA, 12 VIN, 13 ISO7816_CLK, 14 ~{ISO7816_RST}, 15 VOUT, 16 ISO7816_IO2, 17 ISO14443_LA, 18 VCC, 19 VSS, 20 NC, 21 EXP

## SFW24R
designator J?, comment SFW24R-2STE1LF  value FPC-T
CONN FFC BOTTOM 24POS 1.00MM R/A; Unit Price (USD): 1.48; Mfr. Part No.: SFW24R-2STE1LF; Supplier Part No.: 609-1920-1-ND; Footprint: SFW24R-2STE1LF; Supplier: Digikey Electronics
footprint SFW24R-1STE1LF
footprint SFW24R-2STE1LF
pins: 1, 2, 3, 4, 5, 6, 7, 8, 9, 10, 11, 12, 13, 14, 15, 16, 17, 18, 19, 20, 21, 22, 23, 24, G1, G2

## SI5332BD11087-GM2
designator U
SI5332BD11087-GClock Generator IC 200MHz 1 40-VFQFN Exposed Pad / M2; Unit Price (USD): 8.9; Mfr. Part No.: SI5332BD11087-GM2; Supplier Part No.: 336-SI5332BD11087-GM2-ND; Supplier: Digikey Electronics
footprint VFQFN-40-6x6-EP
pins: 1 VDD_DIG, 2 CLKIN_2, 3 CLKIN_2B, 4 VDD_XTAL, 5 XA/CLKIN1, 6 XB, 7 CLKIN_3, 8 CLKIN_3B, 9 VDDA, 10 INPUT1, 11 SCLK, 12 SDATA, 13 OUT0B, 14 OUT0, 15 VDDO0, 16 OUT1B, 17 OUT1, 18 VDDO1, 19 INPUT2, 20 INPUT3, 21 OUT2B, 22 OUT2, 23 OUT3B, 24 OUT3, 25 VDDO2, 26 OUT4B, 27 OUT4, 28 VDDO3, 29 OUT5B, 30 OUT5, 31 INPUT4, 32 INPUT5, 33 VDDO4, 34 OUT6B, 35 OUT6, 36 INPUT6, 37 INPUT7, 38 OUT7B, 39 OUT7, 40 VDDO5, 41 GND

## SIM7050-8-0-00-A
designator U?
MICRO SIM PUSH-PULL, 8P, SMT, 2; Unit Price (USD): 1.33; Mfr. Part No.: SIM7050-8-0-00-A; Supplier Part No.: 2073-SIM7050-8-0-00-ATR-ND; Supplier: Digikey Electronics
footprint Micro-SIM
pins: C1 VCC, C2 RST, C3 CLK, C4 RFU1, C5 GND, C6 VPP, C7 I/O, C8 RFU2

## SIM-ST-MFF2
designator P?
GLOBAL IOT EMBEDDED SIM CHIP; Unit Price (USD): 1.55; Mfr. Part No.: SIM-ST-MFF2; Supplier Part No.: 1887-1002-2-ND; Supplier: Digikey Electronics
pins: 1 GND (power), 3 I/O, 6 CLK, 7 RST, 8 VCC (power), 9 EPAD

## SLW20R
designator J?, comment SFW24R-1STE1LF
CONN FFC BOTTOM 24POS 1.00MM R/A; Unit Price (USD): 1.02; Mfr. Part No.: SFW24R-1STE1LF; Supplier Part No.: 609-1919-1-ND; Footprint: SFW24R-1STE1LF; Supplier: Digikey Electronics
footprint SFW24R-1STE1LF
footprint SFW24R-2STE1LF
pins: 1, 2, 3, 4, 5, 6, 7, 8, 9, 10, 11, 12, 13, 14, 15, 16, 17, 18, 19, 20

## SN74LV1T125DCKR
designator U
IC BUF NON-INVERT 5.5V SC70-5; Unit Price (USD): 0.48; Mfr. Part No.: SN74LV1T125DCKR; Supplier Part No.: 296-37173-1-ND; Supplier: Digikey Electronics
footprint SC-70-5/SOT-353
pins: 1 ~{OE!}, 2 A, 3 GND (power), 4 Y, 5 VCC (power)

## SN74LVC1G08DBVT
designator U?
IC GATE AND 1CH 2-INP SOT23-5; Unit Price (USD): 0.68; Mfr. Part No.: SN74LVC1G08DBVT; Supplier Part No.: 296-26592-2-ND; Supplier: Digikey Electronics
footprint SOT-23-5 (SOT23, 5-Leads, Body 3.00x2.85mm, Pitch 0.95mm, IPC Medium Density)
pins: 1 A, 2 B, 3 GND, 4 Y, 5 VCC
1 alternate drawing of the same symbol

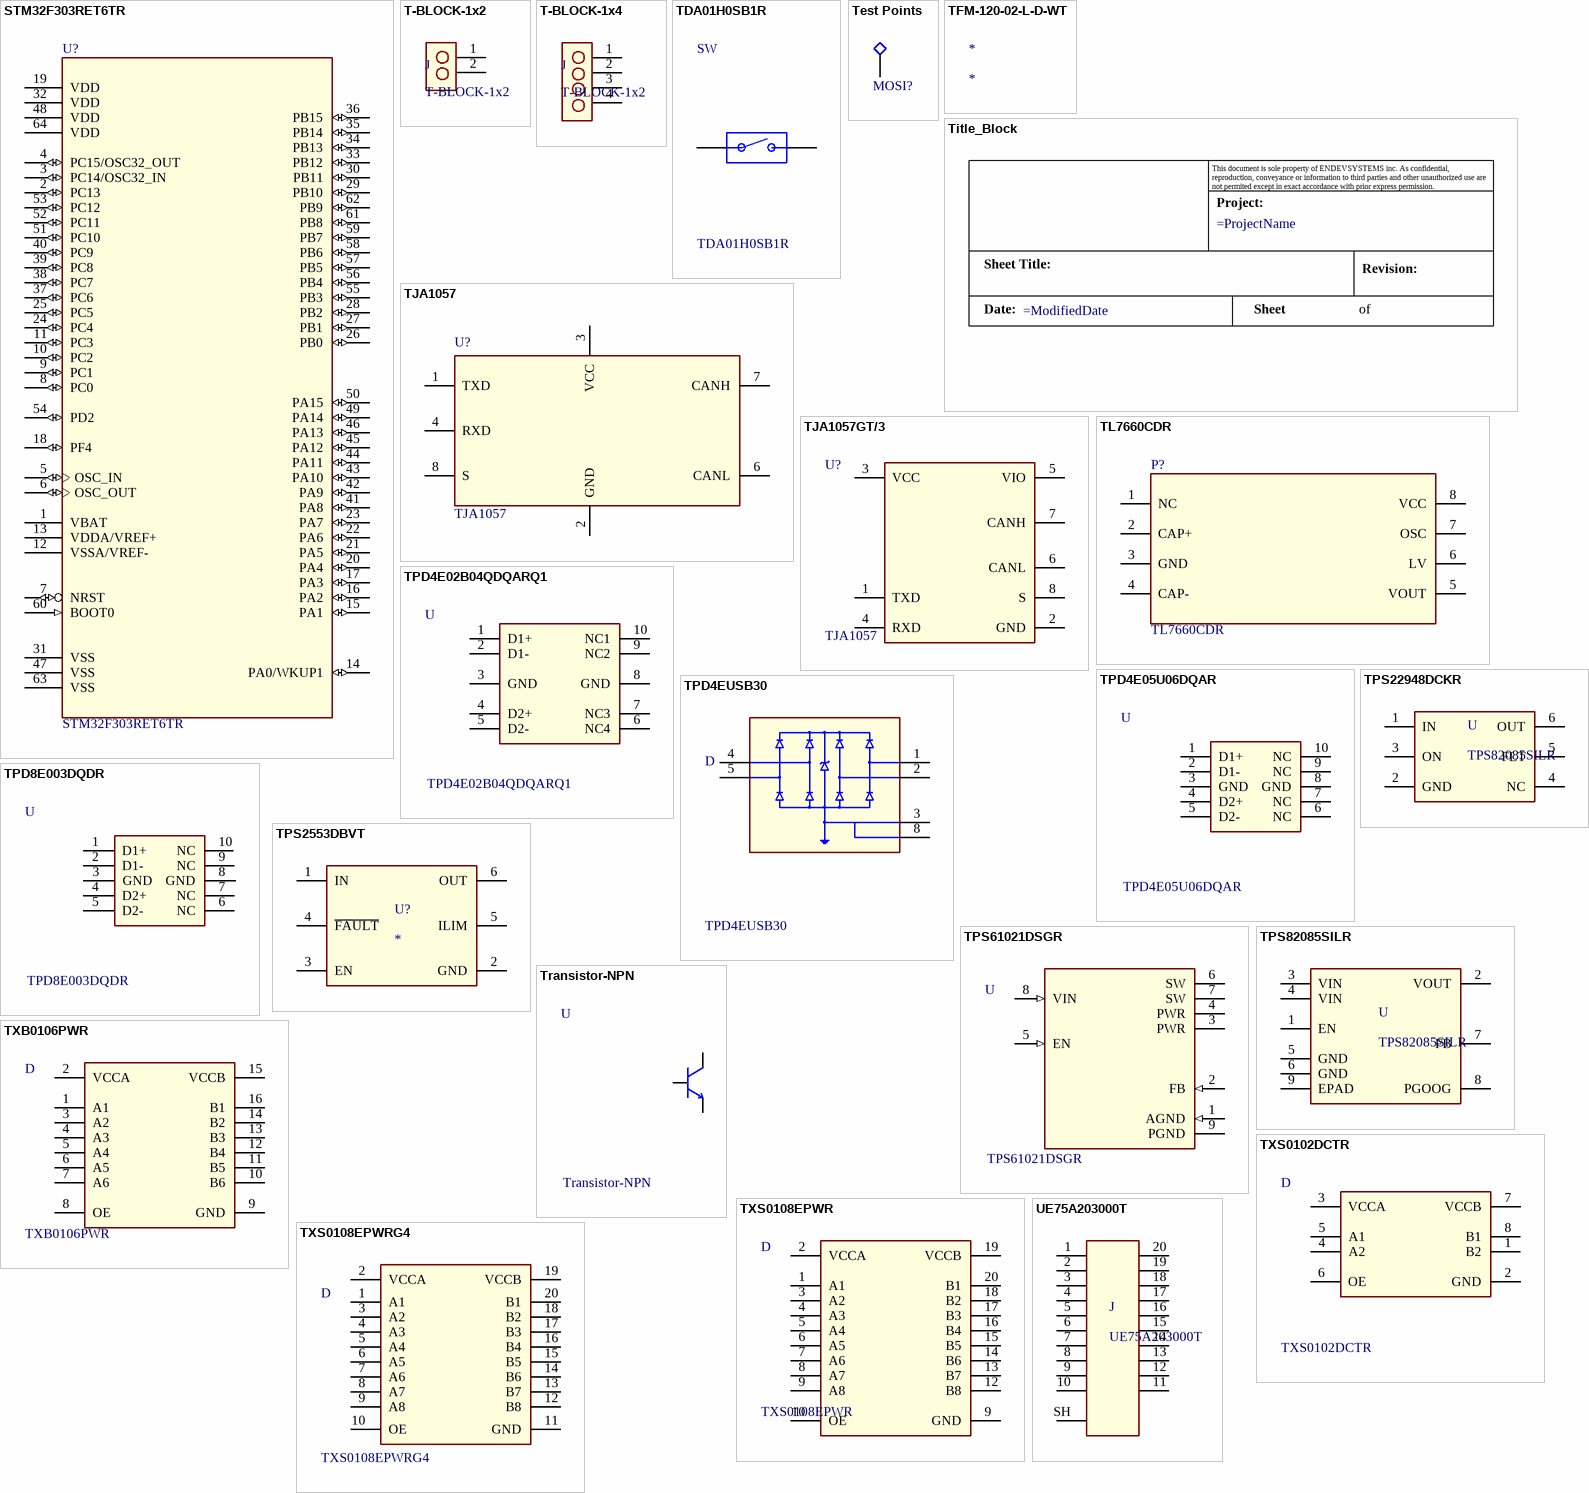
[diagram p8: symbols STM32F303RET6TR to UE75A203000T]

## STM32F303RET6TR
designator U?
MCU 32-bit ARM Cortex M4 RISC 512KB; Unit Price (USD): 7.28; Mfr. Part No.: STM32F303RET6TR; Supplier Part No.: STM32F303RET6TR; Supplier: Arrow Electronics
footprint LQFP64
pins: 1 VBAT (power), 2 PC13 (io), 3 PC14/OSC32_IN (io), 4 PC15/OSC32_OUT (io), 5 OSC_IN (io), 6 OSC_OUT (io), 7 NRST (io), 8 PC0 (io), 9 PC1 (io), 10 PC2 (io), 11 PC3 (io), 12 VSSA/VREF- (power), 13 VDDA/VREF+ (power), 14 PA0/WKUP1 (io), 15 PA1 (io), 16 PA2 (io), 17 PA3 (io), 18 PF4 (io), 19 VDD (power), 20 PA4 (io), 21 PA5 (io), 22 PA6 (io), 23 PA7 (io), 24 PC4 (io), 25 PC5 (io), 26 PB0 (io), 27 PB1 (io), 28 PB2 (io), 29 PB10 (io), 30 PB11 (io), 31 VSS (power), 32 VDD (power), 33 PB12 (io), 34 PB13 (io), 35 PB14 (io), 36 PB15 (io), 37 PC6 (io), 38 PC7 (io), 39 PC8 (io), 40 PC9 (io), 41 PA8 (io), 42 PA9 (io), 43 PA10 (io), 44 PA11 (io), 45 PA12 (io), 46 PA13 (io), 47 VSS (power), 48 VDD (power), 49 PA14 (io), 50 PA15 (io), 51 PC10 (io), 52 PC11 (io), 53 PC12 (io), 54 PD2 (io), 55 PB3 (io), 56 PB4 (io), 57 PB5 (io), 58 PB6 (io), 59 PB7 (io), 60 BOOT0 (in), 61 PB8 (io), 62 PB9 (io), 63 VSS (power), 64 VDD (power)
1 alternate drawing of the same symbol

## T-BLOCK-1x2
designator J
Supplier: Digikey Electronics
footprint Terminal Block-1x2-5.08mm
pins: 1, 2

## T-BLOCK-1x4
designator J, comment T-BLOCK-1x2
Supplier: Digikey Electronics
footprint Terminal Block-1x4-5.08mm
pins: 1, 2, 3, 4